# Altium integrated library Motorola Microcontroller 32-Bit.IntLib: 337 symbols (part 9 of 29)
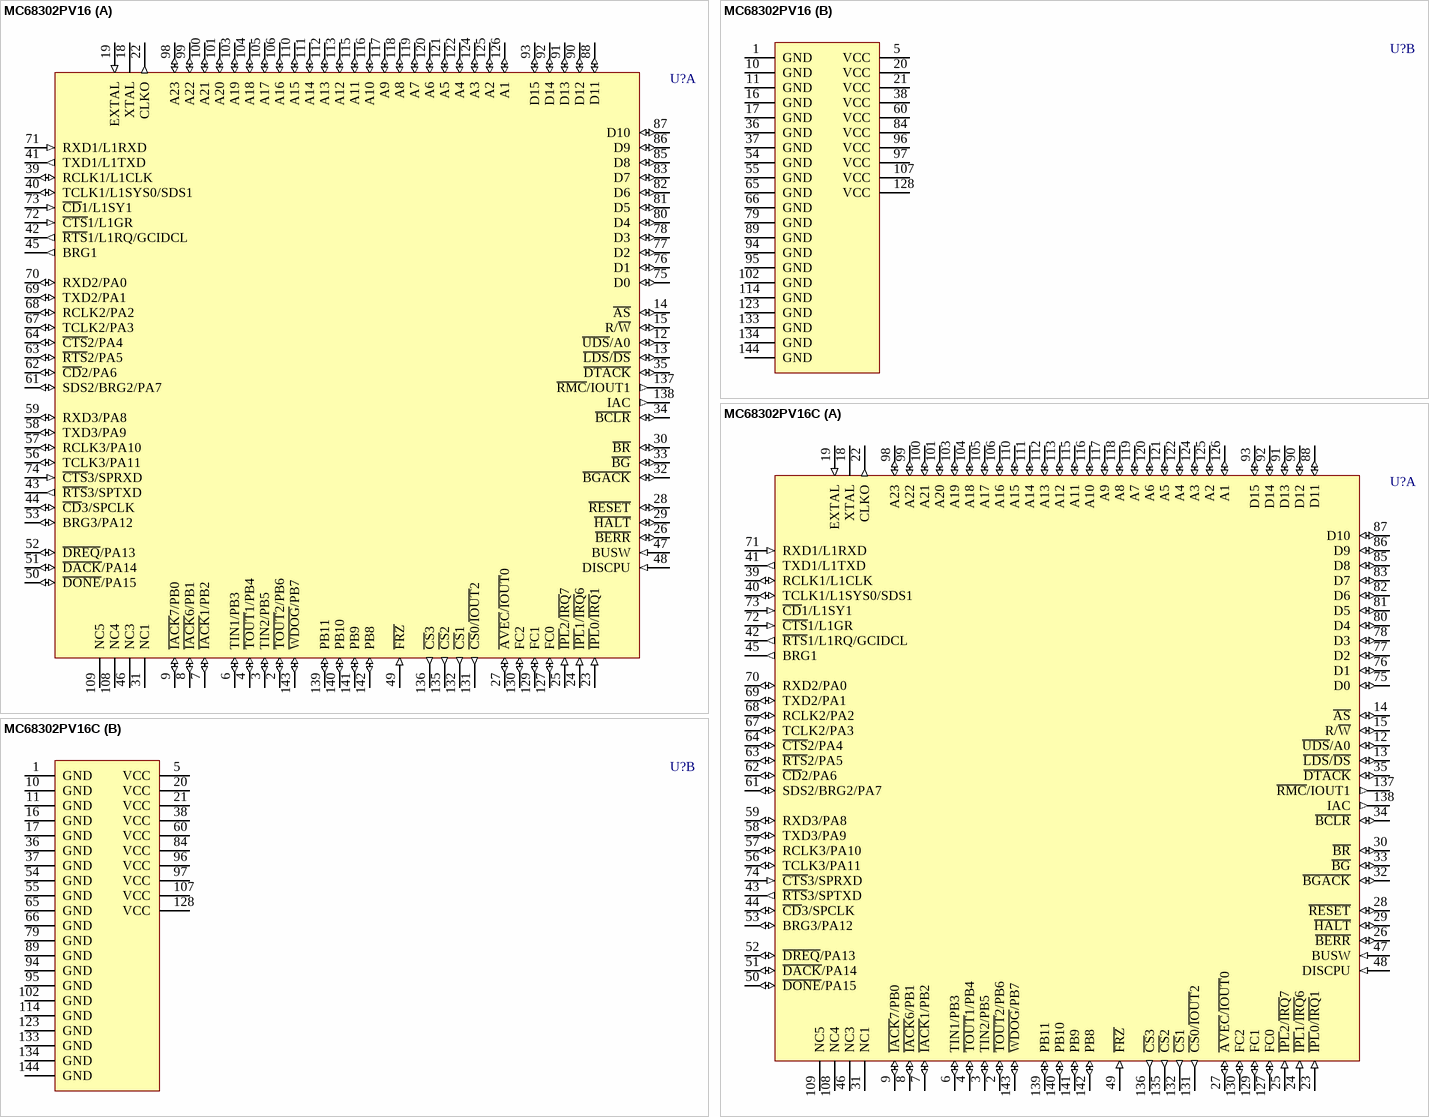
[diagram p248: symbols MC68302PV16 to MC68302PV16C]

## MC68302PV16
designator U?
Integrated Multiprotocol Processor; Published: 21-Mar-2003; LatestRevisionDate: 13-Apr-2006; LatestRevisionNote: IPC-7351 Footprint Added.; DatasheetVersion: 30-Dec-1995; PackageVersion: 1995; PackageReference: 918-02; Publisher: Altium Limited; PackageDescription: 144-Pin Thin Quad Flat Pack 0.5 mm Pitch; ComponentLink1Description: Manufacturer Link; ComponentLink1URL: http://www.freescale.com/; ComponentLink2Description: Datasheet; ComponentLink2URL: http://www.freescale.com/files/32bit/doc/ref_manual/MC68302UM.pdf
footprint 918-02_N (Thin QFP, 144-Leads, Body 20x20mm, Pitch 0.5mm, IPC Medium Density)
footprint 918-02_L (Thin QFP, 144-Leads, Body 20x20mm, Pitch 0.5mm, IPC High Density)
footprint 918-02_M (Thin QFP, 144-Leads, Body 20x20mm, Pitch 0.5mm, IPC Low Density)
3D model MC68302-918 (144-Pin Thin Quad Flat Pack 0.5 mm Pitch)
part A pins: 2 ~{TOUT}2/PB6 (io), 3 TIN2/PB5 (io), 4 ~{TOUT}1/PB4 (io), 6 TIN1/PB3 (io), 7 ~{IACK}1/PB2 (io), 8 ~{IACK}6/PB1 (io), 9 ~{IACK}7/PB0 (io), 12 ~{UDS}/A0 (io), 13 ~{LDS}/~{DS} (io), 14 ~{AS} (io), 15 R/~{W} (io), 18 XTAL, 19 EXTAL (in), 22 CLKO (out), 23 ~{IPL}0/~{IRQ}1 (in), 24 ~{IPL}1/~{IRQ}6 (in), 25 ~{IPL}2/~{IRQ}7 (in), 26 ~{BERR} (io), 27 ~{AVEC}/~{IOUT}0 (io), 28 ~{RESET} (io), 29 ~{HALT} (io), 30 ~{BR} (io), 31 NC1, 32 ~{BGACK} (io), 33 ~{BG} (io), 34 ~{BCLR} (io), 35 ~{DTACK} (io), 39 RCLK1/L1CLK (io), 40 TCLK1/L1SYS0/SDS1 (io), 41 TXD1/L1TXD (out), 42 ~{RTS}1/L1RQ/GCIDCL (out), 43 ~{RTS}3/SPTXD (out), 44 ~{CD}3/SPCLK (io), 45 BRG1 (out), 46 NC3, 47 BUSW (in), 48 DISCPU (in), 49 ~{FRZ} (in), 50 ~{DONE}/PA15 (io), 51 ~{DACK}/PA14 (io), 52 ~{DREQ}/PA13 (io), 53 BRG3/PA12 (io), 56 TCLK3/PA11 (io), 57 RCLK3/PA10 (io), 58 TXD3/PA9 (io), 59 RXD3/PA8 (io), 61 SDS2/BRG2/PA7 (io), 62 ~{CD}2/PA6 (io), 63 ~{RTS}2/PA5 (io), 64 ~{CTS}2/PA4 (io), 67 TCLK2/PA3 (io), 68 RCLK2/PA2 (io), 69 TXD2/PA1 (io), 70 RXD2/PA0 (io), 71 RXD1/L1RXD (in), 72 ~{CTS}1/L1GR (in), 73 ~{CD}1/L1SY1 (in), 74 ~{CTS}3/SPRXD (in), 75 D0 (io), 76 D1 (io), 77 D2 (io), 78 D3 (io), 80 D4 (io), 81 D5 (io), 82 D6 (io), 83 D7 (io), 85 D8 (io), 86 D9 (io), 87 D10 (io), 88 D11 (io), 90 D12 (io), 91 D13 (io), 92 D14 (io), 93 D15 (io), 98 A23 (io), 99 A22 (io), 100 A21 (io), 101 A20 (io), 103 A19 (io), 104 A18 (io), 105 A17 (io), 106 A16 (io), 108 NC4, 109 NC5, 110 A15 (io), 111 A14 (io), 112 A13 (io), 113 A12 (io), 115 A11 (io), 116 A10 (io), 117 A9 (io), 118 A8 (io), 119 A7 (io), 120 A6 (io), 121 A5 (io), 122 A4 (io), 124 A3 (io), 125 A2 (io), 126 A1 (io), 127 FC0 (io), 129 FC1 (io), 130 FC2 (io), 131 ~{CS}0/~{IOUT}2 (out), 132 ~{CS}1 (out), 135 ~{CS}2 (out), 136 ~{CS}3 (out), 137 ~{RMC}/IOUT1 (out), 138 IAC (out), 139 PB11 (io), 140 PB10 (io), 141 PB9 (io), 142 PB8 (io), 143 ~{WDOG}/PB7 (io)
part B pins: 1 GND (power), 5 VCC (power), 10 GND (power), 11 GND (power), 16 GND (power), 17 GND (power), 20 VCC (power), 21 VCC (power), 36 GND (power), 37 GND (power), 38 VCC (power), 54 GND (power), 55 GND (power), 60 VCC (power), 65 GND (power), 66 GND (power), 79 GND (power), 84 VCC (power), 89 GND (power), 94 GND (power), 95 GND (power), 96 VCC (power), 97 VCC (power), 102 GND (power), 107 VCC (power), 114 GND (power), 123 GND (power), 128 VCC (power), 133 GND (power), 134 GND (power), 144 GND (power)

## MC68302PV16C
designator U?
Integrated Multiprotocol Processor; Published: 21-Mar-2003; LatestRevisionDate: 13-Apr-2006; LatestRevisionNote: IPC-7351 Footprint Added.; DatasheetVersion: 30-Dec-1995; PackageVersion: 1995; PackageReference: 918-02; Publisher: Altium Limited; PackageDescription: 144-Pin Thin Quad Flat Pack 0.5 mm Pitch; ComponentLink1Description: Manufacturer Link; ComponentLink1URL: http://www.freescale.com/
footprint 918-02_N (Thin QFP, 144-Leads, Body 20x20mm, Pitch 0.5mm, IPC Medium Density)
footprint 918-02_L (Thin QFP, 144-Leads, Body 20x20mm, Pitch 0.5mm, IPC High Density)
footprint 918-02_M (Thin QFP, 144-Leads, Body 20x20mm, Pitch 0.5mm, IPC Low Density)
3D model MC68302-918 (144-Pin Thin Quad Flat Pack 0.5 mm Pitch)
part A pins: 2 ~{TOUT}2/PB6 (io), 3 TIN2/PB5 (io), 4 ~{TOUT}1/PB4 (io), 6 TIN1/PB3 (io), 7 ~{IACK}1/PB2 (io), 8 ~{IACK}6/PB1 (io), 9 ~{IACK}7/PB0 (io), 12 ~{UDS}/A0 (io), 13 ~{LDS}/~{DS} (io), 14 ~{AS} (io), 15 R/~{W} (io), 18 XTAL, 19 EXTAL (in), 22 CLKO (out), 23 ~{IPL}0/~{IRQ}1 (in), 24 ~{IPL}1/~{IRQ}6 (in), 25 ~{IPL}2/~{IRQ}7 (in), 26 ~{BERR} (io), 27 ~{AVEC}/~{IOUT}0 (io), 28 ~{RESET} (io), 29 ~{HALT} (io), 30 ~{BR} (io), 31 NC1, 32 ~{BGACK} (io), 33 ~{BG} (io), 34 ~{BCLR} (io), 35 ~{DTACK} (io), 39 RCLK1/L1CLK (io), 40 TCLK1/L1SYS0/SDS1 (io), 41 TXD1/L1TXD (out), 42 ~{RTS}1/L1RQ/GCIDCL (out), 43 ~{RTS}3/SPTXD (out), 44 ~{CD}3/SPCLK (io), 45 BRG1 (out), 46 NC3, 47 BUSW (in), 48 DISCPU (in), 49 ~{FRZ} (in), 50 ~{DONE}/PA15 (io), 51 ~{DACK}/PA14 (io), 52 ~{DREQ}/PA13 (io), 53 BRG3/PA12 (io), 56 TCLK3/PA11 (io), 57 RCLK3/PA10 (io), 58 TXD3/PA9 (io), 59 RXD3/PA8 (io), 61 SDS2/BRG2/PA7 (io), 62 ~{CD}2/PA6 (io), 63 ~{RTS}2/PA5 (io), 64 ~{CTS}2/PA4 (io), 67 TCLK2/PA3 (io), 68 RCLK2/PA2 (io), 69 TXD2/PA1 (io), 70 RXD2/PA0 (io), 71 RXD1/L1RXD (in), 72 ~{CTS}1/L1GR (in), 73 ~{CD}1/L1SY1 (in), 74 ~{CTS}3/SPRXD (in), 75 D0 (io), 76 D1 (io), 77 D2 (io), 78 D3 (io), 80 D4 (io), 81 D5 (io), 82 D6 (io), 83 D7 (io), 85 D8 (io), 86 D9 (io), 87 D10 (io), 88 D11 (io), 90 D12 (io), 91 D13 (io), 92 D14 (io), 93 D15 (io), 98 A23 (io), 99 A22 (io), 100 A21 (io), 101 A20 (io), 103 A19 (io), 104 A18 (io), 105 A17 (io), 106 A16 (io), 108 NC4, 109 NC5, 110 A15 (io), 111 A14 (io), 112 A13 (io), 113 A12 (io), 115 A11 (io), 116 A10 (io), 117 A9 (io), 118 A8 (io), 119 A7 (io), 120 A6 (io), 121 A5 (io), 122 A4 (io), 124 A3 (io), 125 A2 (io), 126 A1 (io), 127 FC0 (io), 129 FC1 (io), 130 FC2 (io), 131 ~{CS}0/~{IOUT}2 (out), 132 ~{CS}1 (out), 135 ~{CS}2 (out), 136 ~{CS}3 (out), 137 ~{RMC}/IOUT1 (out), 138 IAC (out), 139 PB11 (io), 140 PB10 (io), 141 PB9 (io), 142 PB8 (io), 143 ~{WDOG}/PB7 (io)
part B pins: 1 GND (power), 5 VCC (power), 10 GND (power), 11 GND (power), 16 GND (power), 17 GND (power), 20 VCC (power), 21 VCC (power), 36 GND (power), 37 GND (power), 38 VCC (power), 54 GND (power), 55 GND (power), 60 VCC (power), 65 GND (power), 66 GND (power), 79 GND (power), 84 VCC (power), 89 GND (power), 94 GND (power), 95 GND (power), 96 VCC (power), 97 VCC (power), 102 GND (power), 107 VCC (power), 114 GND (power), 123 GND (power), 128 VCC (power), 133 GND (power), 134 GND (power), 144 GND (power)

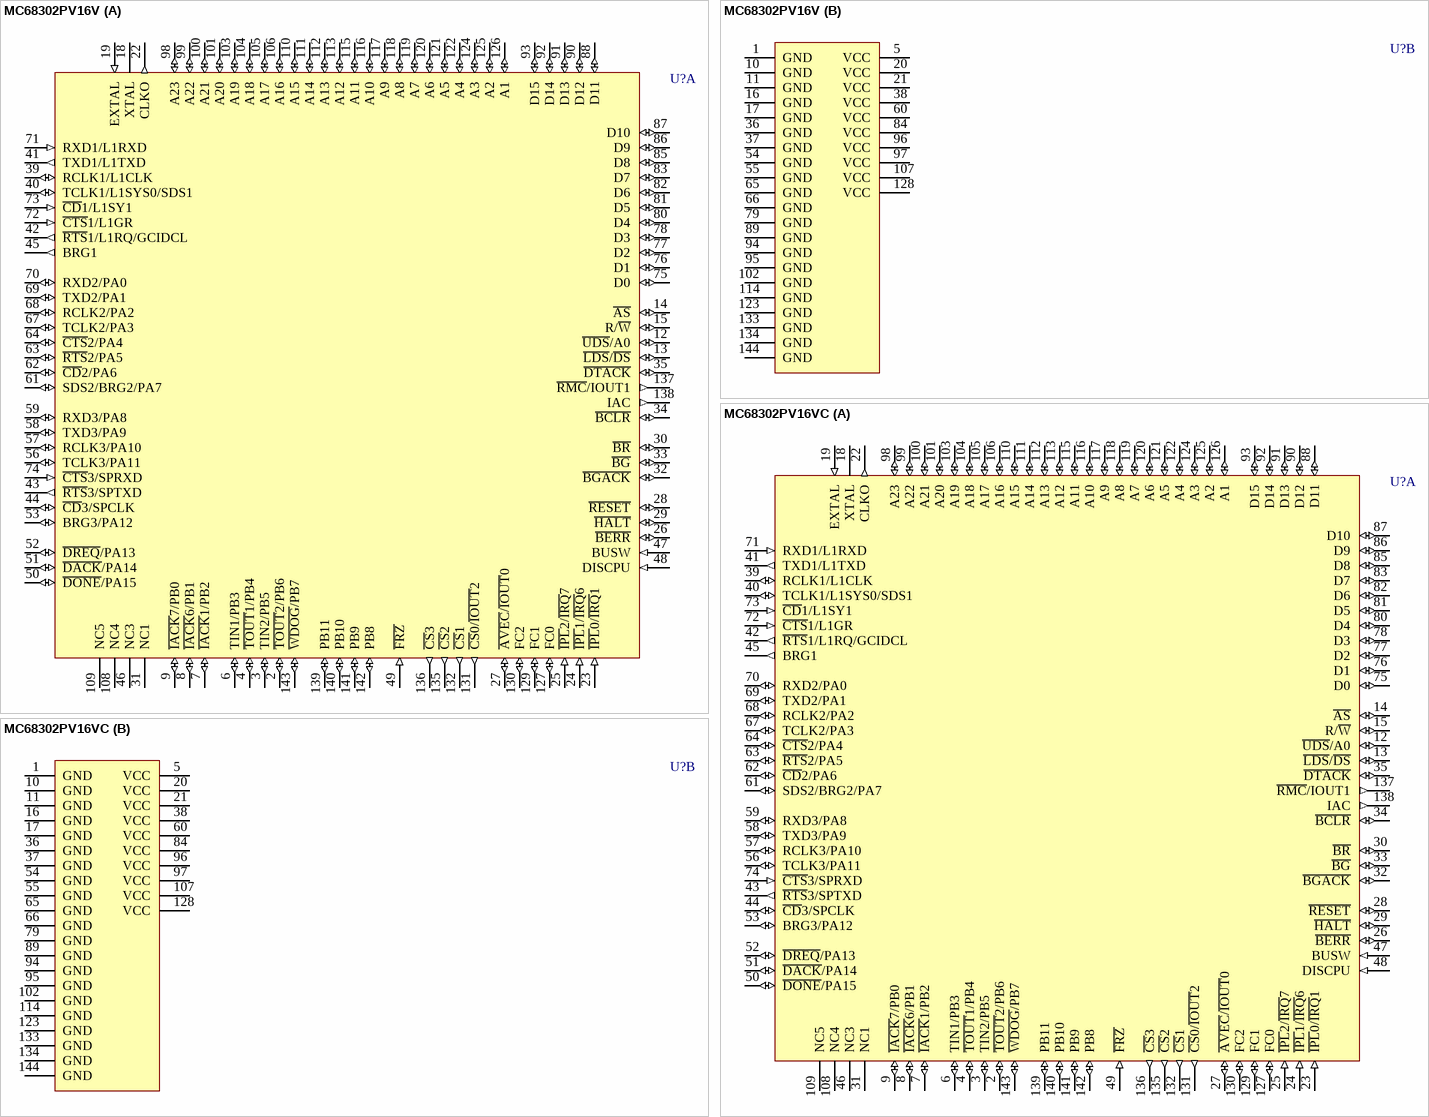
[diagram p79: symbols MC68302PV16V to MC68302PV16VC]

## MC68302PV16V
designator U?
Integrated Multiprotocol Processor; Published: 21-Mar-2003; LatestRevisionDate: 13-Apr-2006; LatestRevisionNote: IPC-7351 Footprint Added.; DatasheetVersion: 30-Dec-1995; PackageVersion: 1995; PackageReference: 918-02; Publisher: Altium Limited; PackageDescription: 144-Pin Thin Quad Flat Pack 0.5 mm Pitch; ComponentLink1Description: Manufacturer Link; ComponentLink1URL: http://www.freescale.com/; ComponentLink2Description: Datasheet; ComponentLink2URL: http://www.freescale.com/files/32bit/doc/ref_manual/MC68302UM.pdf
footprint 918-02_N (Thin QFP, 144-Leads, Body 20x20mm, Pitch 0.5mm, IPC Medium Density)
footprint 918-02_L (Thin QFP, 144-Leads, Body 20x20mm, Pitch 0.5mm, IPC High Density)
footprint 918-02_M (Thin QFP, 144-Leads, Body 20x20mm, Pitch 0.5mm, IPC Low Density)
3D model MC68302-918 (144-Pin Thin Quad Flat Pack 0.5 mm Pitch)
part A pins: 2 ~{TOUT}2/PB6 (io), 3 TIN2/PB5 (io), 4 ~{TOUT}1/PB4 (io), 6 TIN1/PB3 (io), 7 ~{IACK}1/PB2 (io), 8 ~{IACK}6/PB1 (io), 9 ~{IACK}7/PB0 (io), 12 ~{UDS}/A0 (io), 13 ~{LDS}/~{DS} (io), 14 ~{AS} (io), 15 R/~{W} (io), 18 XTAL, 19 EXTAL (in), 22 CLKO (out), 23 ~{IPL}0/~{IRQ}1 (in), 24 ~{IPL}1/~{IRQ}6 (in), 25 ~{IPL}2/~{IRQ}7 (in), 26 ~{BERR} (io), 27 ~{AVEC}/~{IOUT}0 (io), 28 ~{RESET} (io), 29 ~{HALT} (io), 30 ~{BR} (io), 31 NC1, 32 ~{BGACK} (io), 33 ~{BG} (io), 34 ~{BCLR} (io), 35 ~{DTACK} (io), 39 RCLK1/L1CLK (io), 40 TCLK1/L1SYS0/SDS1 (io), 41 TXD1/L1TXD (out), 42 ~{RTS}1/L1RQ/GCIDCL (out), 43 ~{RTS}3/SPTXD (out), 44 ~{CD}3/SPCLK (io), 45 BRG1 (out), 46 NC3, 47 BUSW (in), 48 DISCPU (in), 49 ~{FRZ} (in), 50 ~{DONE}/PA15 (io), 51 ~{DACK}/PA14 (io), 52 ~{DREQ}/PA13 (io), 53 BRG3/PA12 (io), 56 TCLK3/PA11 (io), 57 RCLK3/PA10 (io), 58 TXD3/PA9 (io), 59 RXD3/PA8 (io), 61 SDS2/BRG2/PA7 (io), 62 ~{CD}2/PA6 (io), 63 ~{RTS}2/PA5 (io), 64 ~{CTS}2/PA4 (io), 67 TCLK2/PA3 (io), 68 RCLK2/PA2 (io), 69 TXD2/PA1 (io), 70 RXD2/PA0 (io), 71 RXD1/L1RXD (in), 72 ~{CTS}1/L1GR (in), 73 ~{CD}1/L1SY1 (in), 74 ~{CTS}3/SPRXD (in), 75 D0 (io), 76 D1 (io), 77 D2 (io), 78 D3 (io), 80 D4 (io), 81 D5 (io), 82 D6 (io), 83 D7 (io), 85 D8 (io), 86 D9 (io), 87 D10 (io), 88 D11 (io), 90 D12 (io), 91 D13 (io), 92 D14 (io), 93 D15 (io), 98 A23 (io), 99 A22 (io), 100 A21 (io), 101 A20 (io), 103 A19 (io), 104 A18 (io), 105 A17 (io), 106 A16 (io), 108 NC4, 109 NC5, 110 A15 (io), 111 A14 (io), 112 A13 (io), 113 A12 (io), 115 A11 (io), 116 A10 (io), 117 A9 (io), 118 A8 (io), 119 A7 (io), 120 A6 (io), 121 A5 (io), 122 A4 (io), 124 A3 (io), 125 A2 (io), 126 A1 (io), 127 FC0 (io), 129 FC1 (io), 130 FC2 (io), 131 ~{CS}0/~{IOUT}2 (out), 132 ~{CS}1 (out), 135 ~{CS}2 (out), 136 ~{CS}3 (out), 137 ~{RMC}/IOUT1 (out), 138 IAC (out), 139 PB11 (io), 140 PB10 (io), 141 PB9 (io), 142 PB8 (io), 143 ~{WDOG}/PB7 (io)
part B pins: 1 GND (power), 5 VCC (power), 10 GND (power), 11 GND (power), 16 GND (power), 17 GND (power), 20 VCC (power), 21 VCC (power), 36 GND (power), 37 GND (power), 38 VCC (power), 54 GND (power), 55 GND (power), 60 VCC (power), 65 GND (power), 66 GND (power), 79 GND (power), 84 VCC (power), 89 GND (power), 94 GND (power), 95 GND (power), 96 VCC (power), 97 VCC (power), 102 GND (power), 107 VCC (power), 114 GND (power), 123 GND (power), 128 VCC (power), 133 GND (power), 134 GND (power), 144 GND (power)

## MC68302PV16VC
designator U?
Integrated Multiprotocol Processor; Published: 21-Mar-2003; LatestRevisionDate: 13-Apr-2006; LatestRevisionNote: IPC-7351 Footprint Added.; DatasheetVersion: 30-Dec-1995; PackageVersion: 1995; PackageReference: 918-02; Publisher: Altium Limited; PackageDescription: 144-Pin Thin Quad Flat Pack 0.5 mm Pitch; ComponentLink1Description: Manufacturer Link; ComponentLink1URL: http://www.freescale.com/
footprint 918-02_N (Thin QFP, 144-Leads, Body 20x20mm, Pitch 0.5mm, IPC Medium Density)
footprint 918-02_L (Thin QFP, 144-Leads, Body 20x20mm, Pitch 0.5mm, IPC High Density)
footprint 918-02_M (Thin QFP, 144-Leads, Body 20x20mm, Pitch 0.5mm, IPC Low Density)
3D model MC68302-918 (144-Pin Thin Quad Flat Pack 0.5 mm Pitch)
part A pins: 2 ~{TOUT}2/PB6 (io), 3 TIN2/PB5 (io), 4 ~{TOUT}1/PB4 (io), 6 TIN1/PB3 (io), 7 ~{IACK}1/PB2 (io), 8 ~{IACK}6/PB1 (io), 9 ~{IACK}7/PB0 (io), 12 ~{UDS}/A0 (io), 13 ~{LDS}/~{DS} (io), 14 ~{AS} (io), 15 R/~{W} (io), 18 XTAL, 19 EXTAL (in), 22 CLKO (out), 23 ~{IPL}0/~{IRQ}1 (in), 24 ~{IPL}1/~{IRQ}6 (in), 25 ~{IPL}2/~{IRQ}7 (in), 26 ~{BERR} (io), 27 ~{AVEC}/~{IOUT}0 (io), 28 ~{RESET} (io), 29 ~{HALT} (io), 30 ~{BR} (io), 31 NC1, 32 ~{BGACK} (io), 33 ~{BG} (io), 34 ~{BCLR} (io), 35 ~{DTACK} (io), 39 RCLK1/L1CLK (io), 40 TCLK1/L1SYS0/SDS1 (io), 41 TXD1/L1TXD (out), 42 ~{RTS}1/L1RQ/GCIDCL (out), 43 ~{RTS}3/SPTXD (out), 44 ~{CD}3/SPCLK (io), 45 BRG1 (out), 46 NC3, 47 BUSW (in), 48 DISCPU (in), 49 ~{FRZ} (in), 50 ~{DONE}/PA15 (io), 51 ~{DACK}/PA14 (io), 52 ~{DREQ}/PA13 (io), 53 BRG3/PA12 (io), 56 TCLK3/PA11 (io), 57 RCLK3/PA10 (io), 58 TXD3/PA9 (io), 59 RXD3/PA8 (io), 61 SDS2/BRG2/PA7 (io), 62 ~{CD}2/PA6 (io), 63 ~{RTS}2/PA5 (io), 64 ~{CTS}2/PA4 (io), 67 TCLK2/PA3 (io), 68 RCLK2/PA2 (io), 69 TXD2/PA1 (io), 70 RXD2/PA0 (io), 71 RXD1/L1RXD (in), 72 ~{CTS}1/L1GR (in), 73 ~{CD}1/L1SY1 (in), 74 ~{CTS}3/SPRXD (in), 75 D0 (io), 76 D1 (io), 77 D2 (io), 78 D3 (io), 80 D4 (io), 81 D5 (io), 82 D6 (io), 83 D7 (io), 85 D8 (io), 86 D9 (io), 87 D10 (io), 88 D11 (io), 90 D12 (io), 91 D13 (io), 92 D14 (io), 93 D15 (io), 98 A23 (io), 99 A22 (io), 100 A21 (io), 101 A20 (io), 103 A19 (io), 104 A18 (io), 105 A17 (io), 106 A16 (io), 108 NC4, 109 NC5, 110 A15 (io), 111 A14 (io), 112 A13 (io), 113 A12 (io), 115 A11 (io), 116 A10 (io), 117 A9 (io), 118 A8 (io), 119 A7 (io), 120 A6 (io), 121 A5 (io), 122 A4 (io), 124 A3 (io), 125 A2 (io), 126 A1 (io), 127 FC0 (io), 129 FC1 (io), 130 FC2 (io), 131 ~{CS}0/~{IOUT}2 (out), 132 ~{CS}1 (out), 135 ~{CS}2 (out), 136 ~{CS}3 (out), 137 ~{RMC}/IOUT1 (out), 138 IAC (out), 139 PB11 (io), 140 PB10 (io), 141 PB9 (io), 142 PB8 (io), 143 ~{WDOG}/PB7 (io)
part B pins: 1 GND (power), 5 VCC (power), 10 GND (power), 11 GND (power), 16 GND (power), 17 GND (power), 20 VCC (power), 21 VCC (power), 36 GND (power), 37 GND (power), 38 VCC (power), 54 GND (power), 55 GND (power), 60 VCC (power), 65 GND (power), 66 GND (power), 79 GND (power), 84 VCC (power), 89 GND (power), 94 GND (power), 95 GND (power), 96 VCC (power), 97 VCC (power), 102 GND (power), 107 VCC (power), 114 GND (power), 123 GND (power), 128 VCC (power), 133 GND (power), 134 GND (power), 144 GND (power)

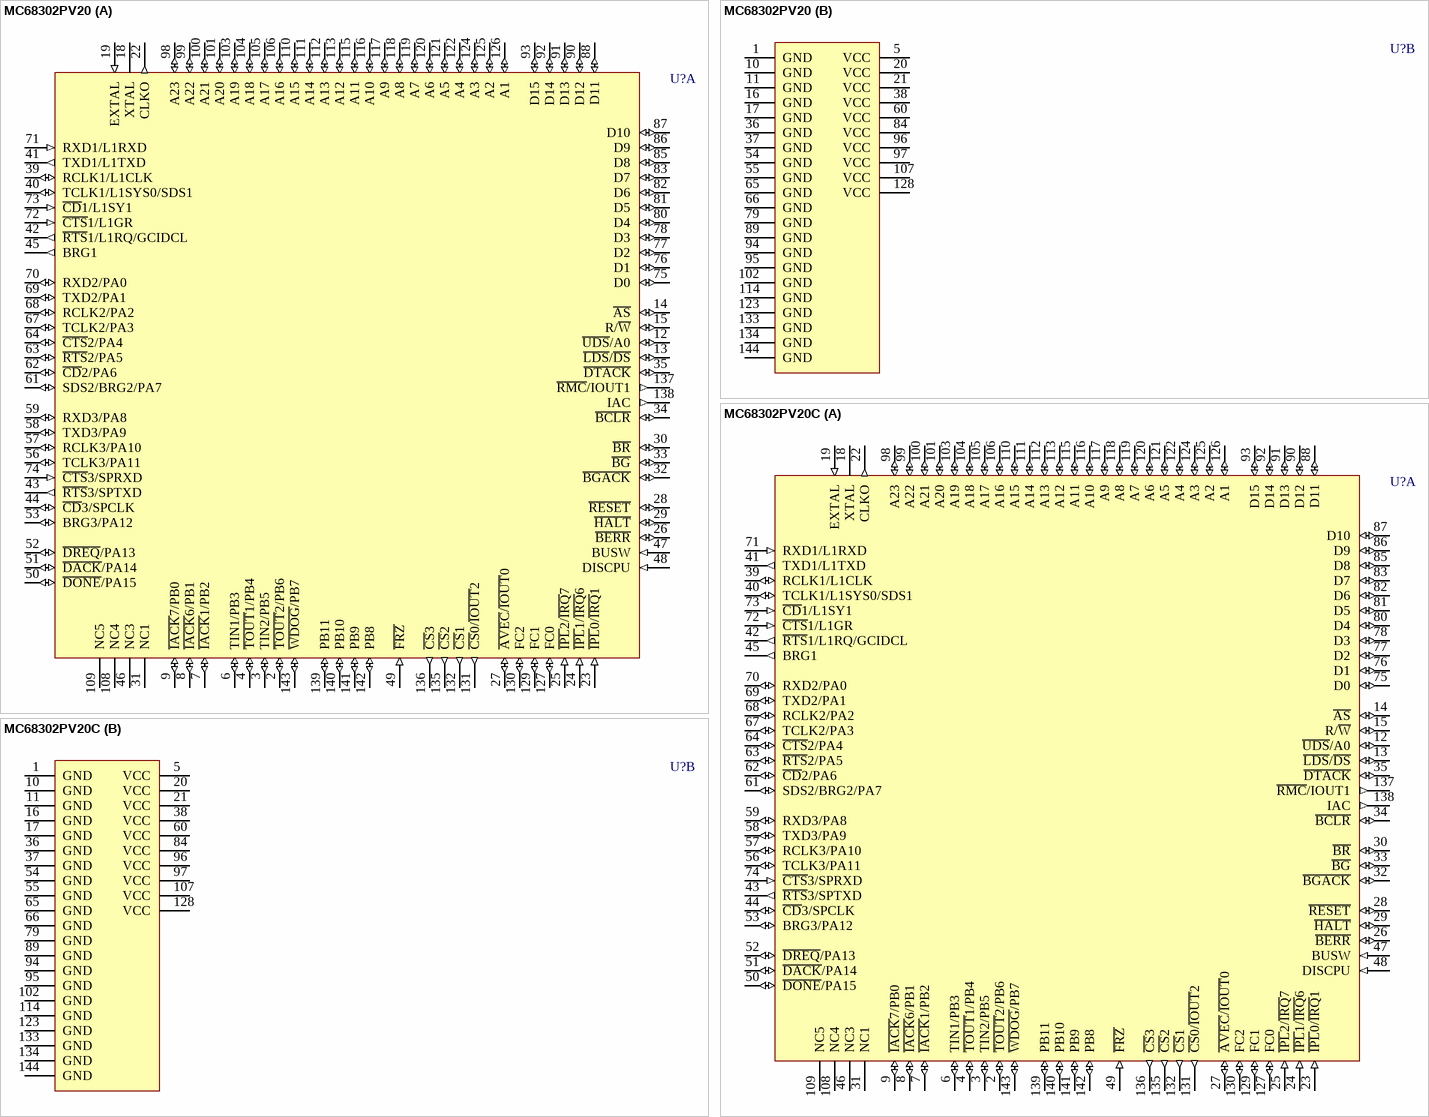
[diagram p80: symbols MC68302PV20 to MC68302PV20C]

## MC68302PV20
designator U?
Integrated Multiprotocol Processor; Published: 21-Mar-2003; LatestRevisionDate: 13-Apr-2006; LatestRevisionNote: IPC-7351 Footprint Added.; DatasheetVersion: 30-Dec-1995; PackageVersion: 1995; PackageReference: 918-02; Publisher: Altium Limited; PackageDescription: 144-Pin Thin Quad Flat Pack 0.5 mm Pitch; ComponentLink1Description: Manufacturer Link; ComponentLink1URL: http://www.freescale.com/; ComponentLink2Description: Datasheet; ComponentLink2URL: http://www.freescale.com/files/32bit/doc/ref_manual/MC68302UM.pdf
footprint 918-02_N (Thin QFP, 144-Leads, Body 20x20mm, Pitch 0.5mm, IPC Medium Density)
footprint 918-02_L (Thin QFP, 144-Leads, Body 20x20mm, Pitch 0.5mm, IPC High Density)
footprint 918-02_M (Thin QFP, 144-Leads, Body 20x20mm, Pitch 0.5mm, IPC Low Density)
3D model MC68302-918 (144-Pin Thin Quad Flat Pack 0.5 mm Pitch)
part A pins: 2 ~{TOUT}2/PB6 (io), 3 TIN2/PB5 (io), 4 ~{TOUT}1/PB4 (io), 6 TIN1/PB3 (io), 7 ~{IACK}1/PB2 (io), 8 ~{IACK}6/PB1 (io), 9 ~{IACK}7/PB0 (io), 12 ~{UDS}/A0 (io), 13 ~{LDS}/~{DS} (io), 14 ~{AS} (io), 15 R/~{W} (io), 18 XTAL, 19 EXTAL (in), 22 CLKO (out), 23 ~{IPL}0/~{IRQ}1 (in), 24 ~{IPL}1/~{IRQ}6 (in), 25 ~{IPL}2/~{IRQ}7 (in), 26 ~{BERR} (io), 27 ~{AVEC}/~{IOUT}0 (io), 28 ~{RESET} (io), 29 ~{HALT} (io), 30 ~{BR} (io), 31 NC1, 32 ~{BGACK} (io), 33 ~{BG} (io), 34 ~{BCLR} (io), 35 ~{DTACK} (io), 39 RCLK1/L1CLK (io), 40 TCLK1/L1SYS0/SDS1 (io), 41 TXD1/L1TXD (out), 42 ~{RTS}1/L1RQ/GCIDCL (out), 43 ~{RTS}3/SPTXD (out), 44 ~{CD}3/SPCLK (io), 45 BRG1 (out), 46 NC3, 47 BUSW (in), 48 DISCPU (in), 49 ~{FRZ} (in), 50 ~{DONE}/PA15 (io), 51 ~{DACK}/PA14 (io), 52 ~{DREQ}/PA13 (io), 53 BRG3/PA12 (io), 56 TCLK3/PA11 (io), 57 RCLK3/PA10 (io), 58 TXD3/PA9 (io), 59 RXD3/PA8 (io), 61 SDS2/BRG2/PA7 (io), 62 ~{CD}2/PA6 (io), 63 ~{RTS}2/PA5 (io), 64 ~{CTS}2/PA4 (io), 67 TCLK2/PA3 (io), 68 RCLK2/PA2 (io), 69 TXD2/PA1 (io), 70 RXD2/PA0 (io), 71 RXD1/L1RXD (in), 72 ~{CTS}1/L1GR (in), 73 ~{CD}1/L1SY1 (in), 74 ~{CTS}3/SPRXD (in), 75 D0 (io), 76 D1 (io), 77 D2 (io), 78 D3 (io), 80 D4 (io), 81 D5 (io), 82 D6 (io), 83 D7 (io), 85 D8 (io), 86 D9 (io), 87 D10 (io), 88 D11 (io), 90 D12 (io), 91 D13 (io), 92 D14 (io), 93 D15 (io), 98 A23 (io), 99 A22 (io), 100 A21 (io), 101 A20 (io), 103 A19 (io), 104 A18 (io), 105 A17 (io), 106 A16 (io), 108 NC4, 109 NC5, 110 A15 (io), 111 A14 (io), 112 A13 (io), 113 A12 (io), 115 A11 (io), 116 A10 (io), 117 A9 (io), 118 A8 (io), 119 A7 (io), 120 A6 (io), 121 A5 (io), 122 A4 (io), 124 A3 (io), 125 A2 (io), 126 A1 (io), 127 FC0 (io), 129 FC1 (io), 130 FC2 (io), 131 ~{CS}0/~{IOUT}2 (out), 132 ~{CS}1 (out), 135 ~{CS}2 (out), 136 ~{CS}3 (out), 137 ~{RMC}/IOUT1 (out), 138 IAC (out), 139 PB11 (io), 140 PB10 (io), 141 PB9 (io), 142 PB8 (io), 143 ~{WDOG}/PB7 (io)
part B pins: 1 GND (power), 5 VCC (power), 10 GND (power), 11 GND (power), 16 GND (power), 17 GND (power), 20 VCC (power), 21 VCC (power), 36 GND (power), 37 GND (power), 38 VCC (power), 54 GND (power), 55 GND (power), 60 VCC (power), 65 GND (power), 66 GND (power), 79 GND (power), 84 VCC (power), 89 GND (power), 94 GND (power), 95 GND (power), 96 VCC (power), 97 VCC (power), 102 GND (power), 107 VCC (power), 114 GND (power), 123 GND (power), 128 VCC (power), 133 GND (power), 134 GND (power), 144 GND (power)

## MC68302PV20C
designator U?
Integrated Multiprotocol Processor; Published: 21-Mar-2003; LatestRevisionDate: 13-Apr-2006; LatestRevisionNote: IPC-7351 Footprint Added.; DatasheetVersion: 30-Dec-1995; PackageVersion: 1995; PackageReference: 918-02; Publisher: Altium Limited; PackageDescription: 144-Pin Thin Quad Flat Pack 0.5 mm Pitch; ComponentLink1Description: Manufacturer Link; ComponentLink1URL: http://www.freescale.com/
footprint 918-02_N (Thin QFP, 144-Leads, Body 20x20mm, Pitch 0.5mm, IPC Medium Density)
footprint 918-02_L (Thin QFP, 144-Leads, Body 20x20mm, Pitch 0.5mm, IPC High Density)
footprint 918-02_M (Thin QFP, 144-Leads, Body 20x20mm, Pitch 0.5mm, IPC Low Density)
3D model MC68302-918 (144-Pin Thin Quad Flat Pack 0.5 mm Pitch)
part A pins: 2 ~{TOUT}2/PB6 (io), 3 TIN2/PB5 (io), 4 ~{TOUT}1/PB4 (io), 6 TIN1/PB3 (io), 7 ~{IACK}1/PB2 (io), 8 ~{IACK}6/PB1 (io), 9 ~{IACK}7/PB0 (io), 12 ~{UDS}/A0 (io), 13 ~{LDS}/~{DS} (io), 14 ~{AS} (io), 15 R/~{W} (io), 18 XTAL, 19 EXTAL (in), 22 CLKO (out), 23 ~{IPL}0/~{IRQ}1 (in), 24 ~{IPL}1/~{IRQ}6 (in), 25 ~{IPL}2/~{IRQ}7 (in), 26 ~{BERR} (io), 27 ~{AVEC}/~{IOUT}0 (io), 28 ~{RESET} (io), 29 ~{HALT} (io), 30 ~{BR} (io), 31 NC1, 32 ~{BGACK} (io), 33 ~{BG} (io), 34 ~{BCLR} (io), 35 ~{DTACK} (io), 39 RCLK1/L1CLK (io), 40 TCLK1/L1SYS0/SDS1 (io), 41 TXD1/L1TXD (out), 42 ~{RTS}1/L1RQ/GCIDCL (out), 43 ~{RTS}3/SPTXD (out), 44 ~{CD}3/SPCLK (io), 45 BRG1 (out), 46 NC3, 47 BUSW (in), 48 DISCPU (in), 49 ~{FRZ} (in), 50 ~{DONE}/PA15 (io), 51 ~{DACK}/PA14 (io), 52 ~{DREQ}/PA13 (io), 53 BRG3/PA12 (io), 56 TCLK3/PA11 (io), 57 RCLK3/PA10 (io), 58 TXD3/PA9 (io), 59 RXD3/PA8 (io), 61 SDS2/BRG2/PA7 (io), 62 ~{CD}2/PA6 (io), 63 ~{RTS}2/PA5 (io), 64 ~{CTS}2/PA4 (io), 67 TCLK2/PA3 (io), 68 RCLK2/PA2 (io), 69 TXD2/PA1 (io), 70 RXD2/PA0 (io), 71 RXD1/L1RXD (in), 72 ~{CTS}1/L1GR (in), 73 ~{CD}1/L1SY1 (in), 74 ~{CTS}3/SPRXD (in), 75 D0 (io), 76 D1 (io), 77 D2 (io), 78 D3 (io), 80 D4 (io), 81 D5 (io), 82 D6 (io), 83 D7 (io), 85 D8 (io), 86 D9 (io), 87 D10 (io), 88 D11 (io), 90 D12 (io), 91 D13 (io), 92 D14 (io), 93 D15 (io), 98 A23 (io), 99 A22 (io), 100 A21 (io), 101 A20 (io), 103 A19 (io), 104 A18 (io), 105 A17 (io), 106 A16 (io), 108 NC4, 109 NC5, 110 A15 (io), 111 A14 (io), 112 A13 (io), 113 A12 (io), 115 A11 (io), 116 A10 (io), 117 A9 (io), 118 A8 (io), 119 A7 (io), 120 A6 (io), 121 A5 (io), 122 A4 (io), 124 A3 (io), 125 A2 (io), 126 A1 (io), 127 FC0 (io), 129 FC1 (io), 130 FC2 (io), 131 ~{CS}0/~{IOUT}2 (out), 132 ~{CS}1 (out), 135 ~{CS}2 (out), 136 ~{CS}3 (out), 137 ~{RMC}/IOUT1 (out), 138 IAC (out), 139 PB11 (io), 140 PB10 (io), 141 PB9 (io), 142 PB8 (io), 143 ~{WDOG}/PB7 (io)
part B pins: 1 GND (power), 5 VCC (power), 10 GND (power), 11 GND (power), 16 GND (power), 17 GND (power), 20 VCC (power), 21 VCC (power), 36 GND (power), 37 GND (power), 38 VCC (power), 54 GND (power), 55 GND (power), 60 VCC (power), 65 GND (power), 66 GND (power), 79 GND (power), 84 VCC (power), 89 GND (power), 94 GND (power), 95 GND (power), 96 VCC (power), 97 VCC (power), 102 GND (power), 107 VCC (power), 114 GND (power), 123 GND (power), 128 VCC (power), 133 GND (power), 134 GND (power), 144 GND (power)

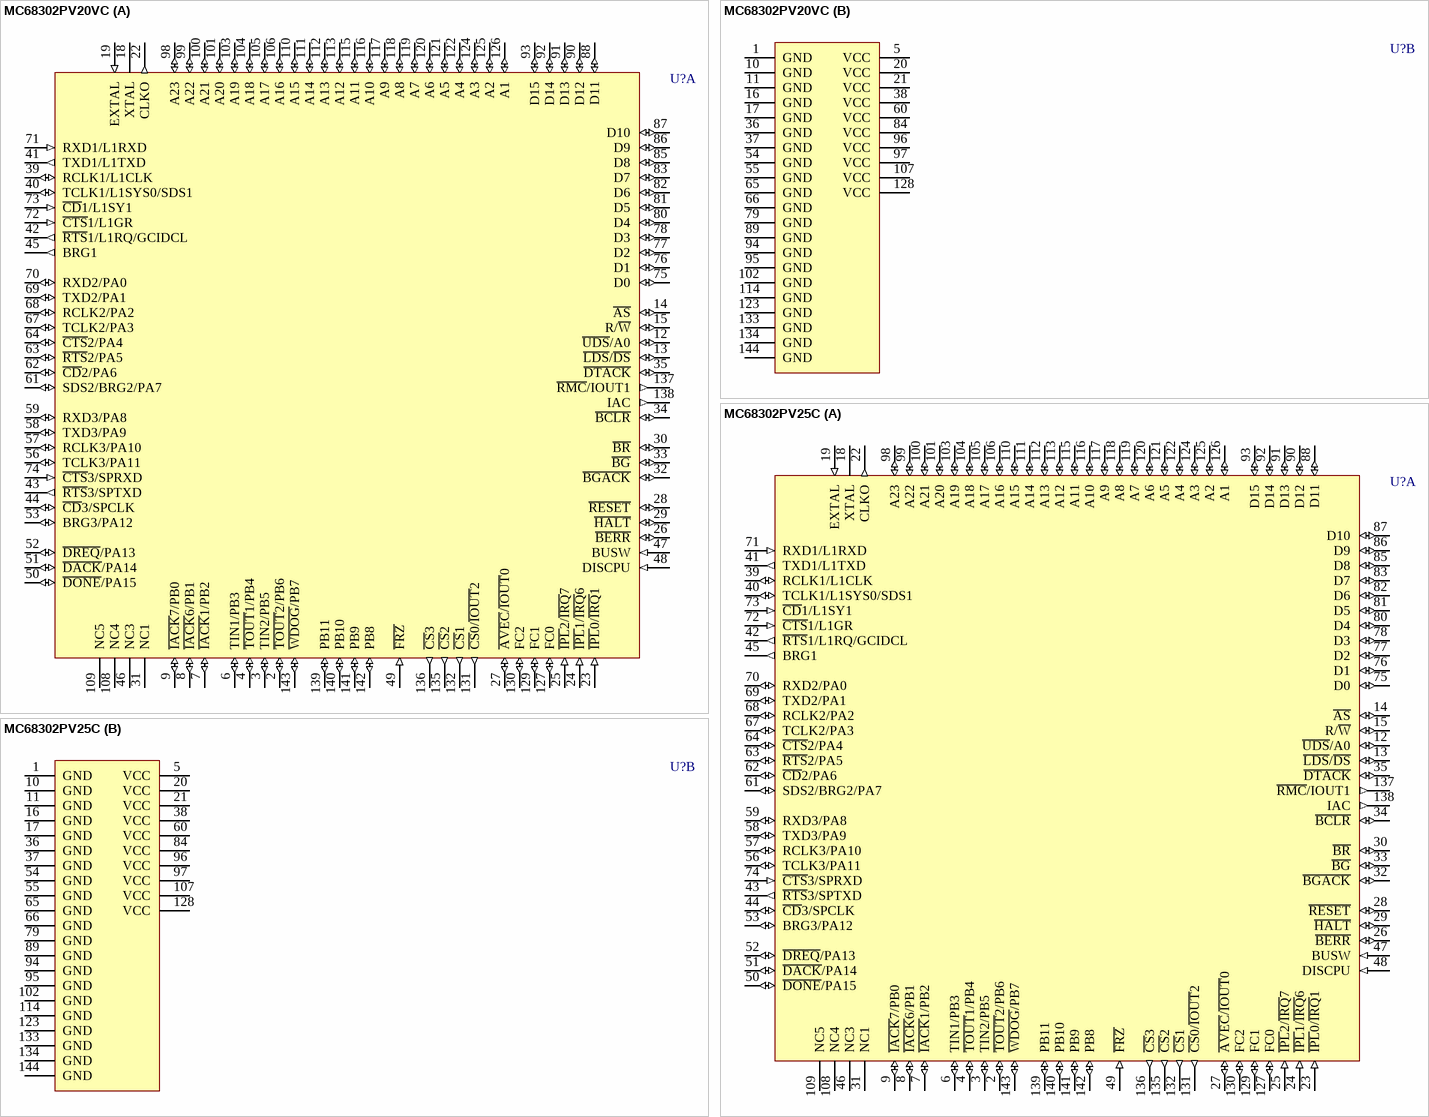
[diagram p81: symbols MC68302PV20VC to MC68302PV25C]

## MC68302PV20VC
designator U?
Integrated Multiprotocol Processor; Published: 21-Mar-2003; LatestRevisionDate: 13-Apr-2006; LatestRevisionNote: IPC-7351 Footprint Added.; DatasheetVersion: 30-Dec-1995; PackageVersion: 1995; PackageReference: 918-02; Publisher: Altium Limited; PackageDescription: 144-Pin Thin Quad Flat Pack 0.5 mm Pitch; ComponentLink1Description: Manufacturer Link; ComponentLink1URL: http://www.freescale.com/
footprint 918-02_N (Thin QFP, 144-Leads, Body 20x20mm, Pitch 0.5mm, IPC Medium Density)
footprint 918-02_L (Thin QFP, 144-Leads, Body 20x20mm, Pitch 0.5mm, IPC High Density)
footprint 918-02_M (Thin QFP, 144-Leads, Body 20x20mm, Pitch 0.5mm, IPC Low Density)
3D model MC68302-918 (144-Pin Thin Quad Flat Pack 0.5 mm Pitch)
part A pins: 2 ~{TOUT}2/PB6 (io), 3 TIN2/PB5 (io), 4 ~{TOUT}1/PB4 (io), 6 TIN1/PB3 (io), 7 ~{IACK}1/PB2 (io), 8 ~{IACK}6/PB1 (io), 9 ~{IACK}7/PB0 (io), 12 ~{UDS}/A0 (io), 13 ~{LDS}/~{DS} (io), 14 ~{AS} (io), 15 R/~{W} (io), 18 XTAL, 19 EXTAL (in), 22 CLKO (out), 23 ~{IPL}0/~{IRQ}1 (in), 24 ~{IPL}1/~{IRQ}6 (in), 25 ~{IPL}2/~{IRQ}7 (in), 26 ~{BERR} (io), 27 ~{AVEC}/~{IOUT}0 (io), 28 ~{RESET} (io), 29 ~{HALT} (io), 30 ~{BR} (io), 31 NC1, 32 ~{BGACK} (io), 33 ~{BG} (io), 34 ~{BCLR} (io), 35 ~{DTACK} (io), 39 RCLK1/L1CLK (io), 40 TCLK1/L1SYS0/SDS1 (io), 41 TXD1/L1TXD (out), 42 ~{RTS}1/L1RQ/GCIDCL (out), 43 ~{RTS}3/SPTXD (out), 44 ~{CD}3/SPCLK (io), 45 BRG1 (out), 46 NC3, 47 BUSW (in), 48 DISCPU (in), 49 ~{FRZ} (in), 50 ~{DONE}/PA15 (io), 51 ~{DACK}/PA14 (io), 52 ~{DREQ}/PA13 (io), 53 BRG3/PA12 (io), 56 TCLK3/PA11 (io), 57 RCLK3/PA10 (io), 58 TXD3/PA9 (io), 59 RXD3/PA8 (io), 61 SDS2/BRG2/PA7 (io), 62 ~{CD}2/PA6 (io), 63 ~{RTS}2/PA5 (io), 64 ~{CTS}2/PA4 (io), 67 TCLK2/PA3 (io), 68 RCLK2/PA2 (io), 69 TXD2/PA1 (io), 70 RXD2/PA0 (io), 71 RXD1/L1RXD (in), 72 ~{CTS}1/L1GR (in), 73 ~{CD}1/L1SY1 (in), 74 ~{CTS}3/SPRXD (in), 75 D0 (io), 76 D1 (io), 77 D2 (io), 78 D3 (io), 80 D4 (io), 81 D5 (io), 82 D6 (io), 83 D7 (io), 85 D8 (io), 86 D9 (io), 87 D10 (io), 88 D11 (io), 90 D12 (io), 91 D13 (io), 92 D14 (io), 93 D15 (io), 98 A23 (io), 99 A22 (io), 100 A21 (io), 101 A20 (io), 103 A19 (io), 104 A18 (io), 105 A17 (io), 106 A16 (io), 108 NC4, 109 NC5, 110 A15 (io), 111 A14 (io), 112 A13 (io), 113 A12 (io), 115 A11 (io), 116 A10 (io), 117 A9 (io), 118 A8 (io), 119 A7 (io), 120 A6 (io), 121 A5 (io), 122 A4 (io), 124 A3 (io), 125 A2 (io), 126 A1 (io), 127 FC0 (io), 129 FC1 (io), 130 FC2 (io), 131 ~{CS}0/~{IOUT}2 (out), 132 ~{CS}1 (out), 135 ~{CS}2 (out), 136 ~{CS}3 (out), 137 ~{RMC}/IOUT1 (out), 138 IAC (out), 139 PB11 (io), 140 PB10 (io), 141 PB9 (io), 142 PB8 (io), 143 ~{WDOG}/PB7 (io)
part B pins: 1 GND (power), 5 VCC (power), 10 GND (power), 11 GND (power), 16 GND (power), 17 GND (power), 20 VCC (power), 21 VCC (power), 36 GND (power), 37 GND (power), 38 VCC (power), 54 GND (power), 55 GND (power), 60 VCC (power), 65 GND (power), 66 GND (power), 79 GND (power), 84 VCC (power), 89 GND (power), 94 GND (power), 95 GND (power), 96 VCC (power), 97 VCC (power), 102 GND (power), 107 VCC (power), 114 GND (power), 123 GND (power), 128 VCC (power), 133 GND (power), 134 GND (power), 144 GND (power)

## MC68302PV25C
designator U?
Integrated Multiprotocol Processor; Published: 21-Mar-2003; LatestRevisionDate: 13-Apr-2006; LatestRevisionNote: IPC-7351 Footprint Added.; DatasheetVersion: 30-Dec-1995; PackageVersion: 1995; PackageReference: 918-02; Publisher: Altium Limited; PackageDescription: 144-Pin Thin Quad Flat Pack 0.5 mm Pitch; ComponentLink1Description: Manufacturer Link; ComponentLink1URL: http://www.freescale.com/
footprint 918-02_N (Thin QFP, 144-Leads, Body 20x20mm, Pitch 0.5mm, IPC Medium Density)
footprint 918-02_L (Thin QFP, 144-Leads, Body 20x20mm, Pitch 0.5mm, IPC High Density)
footprint 918-02_M (Thin QFP, 144-Leads, Body 20x20mm, Pitch 0.5mm, IPC Low Density)
3D model MC68302-918 (144-Pin Thin Quad Flat Pack 0.5 mm Pitch)
part A pins: 2 ~{TOUT}2/PB6 (io), 3 TIN2/PB5 (io), 4 ~{TOUT}1/PB4 (io), 6 TIN1/PB3 (io), 7 ~{IACK}1/PB2 (io), 8 ~{IACK}6/PB1 (io), 9 ~{IACK}7/PB0 (io), 12 ~{UDS}/A0 (io), 13 ~{LDS}/~{DS} (io), 14 ~{AS} (io), 15 R/~{W} (io), 18 XTAL, 19 EXTAL (in), 22 CLKO (out), 23 ~{IPL}0/~{IRQ}1 (in), 24 ~{IPL}1/~{IRQ}6 (in), 25 ~{IPL}2/~{IRQ}7 (in), 26 ~{BERR} (io), 27 ~{AVEC}/~{IOUT}0 (io), 28 ~{RESET} (io), 29 ~{HALT} (io), 30 ~{BR} (io), 31 NC1, 32 ~{BGACK} (io), 33 ~{BG} (io), 34 ~{BCLR} (io), 35 ~{DTACK} (io), 39 RCLK1/L1CLK (io), 40 TCLK1/L1SYS0/SDS1 (io), 41 TXD1/L1TXD (out), 42 ~{RTS}1/L1RQ/GCIDCL (out), 43 ~{RTS}3/SPTXD (out), 44 ~{CD}3/SPCLK (io), 45 BRG1 (out), 46 NC3, 47 BUSW (in), 48 DISCPU (in), 49 ~{FRZ} (in), 50 ~{DONE}/PA15 (io), 51 ~{DACK}/PA14 (io), 52 ~{DREQ}/PA13 (io), 53 BRG3/PA12 (io), 56 TCLK3/PA11 (io), 57 RCLK3/PA10 (io), 58 TXD3/PA9 (io), 59 RXD3/PA8 (io), 61 SDS2/BRG2/PA7 (io), 62 ~{CD}2/PA6 (io), 63 ~{RTS}2/PA5 (io), 64 ~{CTS}2/PA4 (io), 67 TCLK2/PA3 (io), 68 RCLK2/PA2 (io), 69 TXD2/PA1 (io), 70 RXD2/PA0 (io), 71 RXD1/L1RXD (in), 72 ~{CTS}1/L1GR (in), 73 ~{CD}1/L1SY1 (in), 74 ~{CTS}3/SPRXD (in), 75 D0 (io), 76 D1 (io), 77 D2 (io), 78 D3 (io), 80 D4 (io), 81 D5 (io), 82 D6 (io), 83 D7 (io), 85 D8 (io), 86 D9 (io), 87 D10 (io), 88 D11 (io), 90 D12 (io), 91 D13 (io), 92 D14 (io), 93 D15 (io), 98 A23 (io), 99 A22 (io), 100 A21 (io), 101 A20 (io), 103 A19 (io), 104 A18 (io), 105 A17 (io), 106 A16 (io), 108 NC4, 109 NC5, 110 A15 (io), 111 A14 (io), 112 A13 (io), 113 A12 (io), 115 A11 (io), 116 A10 (io), 117 A9 (io), 118 A8 (io), 119 A7 (io), 120 A6 (io), 121 A5 (io), 122 A4 (io), 124 A3 (io), 125 A2 (io), 126 A1 (io), 127 FC0 (io), 129 FC1 (io), 130 FC2 (io), 131 ~{CS}0/~{IOUT}2 (out), 132 ~{CS}1 (out), 135 ~{CS}2 (out), 136 ~{CS}3 (out), 137 ~{RMC}/IOUT1 (out), 138 IAC (out), 139 PB11 (io), 140 PB10 (io), 141 PB9 (io), 142 PB8 (io), 143 ~{WDOG}/PB7 (io)
part B pins: 1 GND (power), 5 VCC (power), 10 GND (power), 11 GND (power), 16 GND (power), 17 GND (power), 20 VCC (power), 21 VCC (power), 36 GND (power), 37 GND (power), 38 VCC (power), 54 GND (power), 55 GND (power), 60 VCC (power), 65 GND (power), 66 GND (power), 79 GND (power), 84 VCC (power), 89 GND (power), 94 GND (power), 95 GND (power), 96 VCC (power), 97 VCC (power), 102 GND (power), 107 VCC (power), 114 GND (power), 123 GND (power), 128 VCC (power), 133 GND (power), 134 GND (power), 144 GND (power)

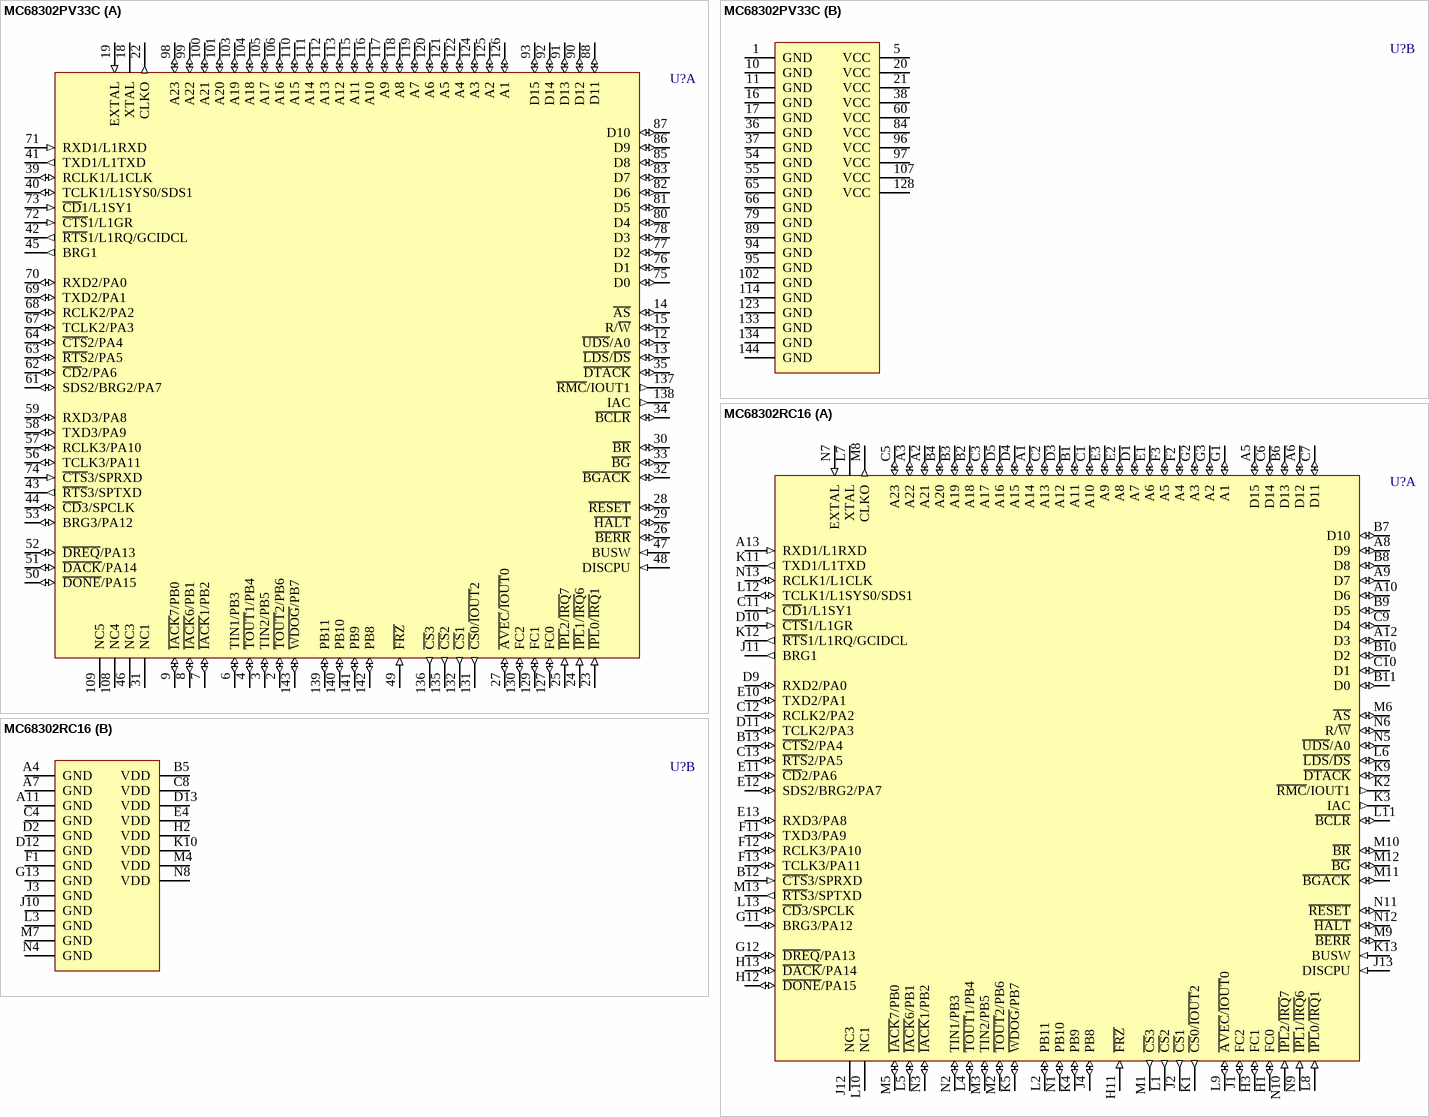
[diagram p82: symbols MC68302PV33C to MC68302RC16]

## MC68302PV33C
designator U?
Integrated Multiprotocol Processor; Published: 21-Mar-2003; LatestRevisionDate: 13-Apr-2006; LatestRevisionNote: IPC-7351 Footprint Added.; DatasheetVersion: 30-Dec-1995; PackageVersion: 1995; PackageReference: 918-02; Publisher: Altium Limited; PackageDescription: 144-Pin Thin Quad Flat Pack 0.5 mm Pitch; ComponentLink1Description: Manufacturer Link; ComponentLink1URL: http://www.freescale.com/
footprint 918-02_N (Thin QFP, 144-Leads, Body 20x20mm, Pitch 0.5mm, IPC Medium Density)
footprint 918-02_L (Thin QFP, 144-Leads, Body 20x20mm, Pitch 0.5mm, IPC High Density)
footprint 918-02_M (Thin QFP, 144-Leads, Body 20x20mm, Pitch 0.5mm, IPC Low Density)
3D model MC68302-918 (144-Pin Thin Quad Flat Pack 0.5 mm Pitch)
part A pins: 2 ~{TOUT}2/PB6 (io), 3 TIN2/PB5 (io), 4 ~{TOUT}1/PB4 (io), 6 TIN1/PB3 (io), 7 ~{IACK}1/PB2 (io), 8 ~{IACK}6/PB1 (io), 9 ~{IACK}7/PB0 (io), 12 ~{UDS}/A0 (io), 13 ~{LDS}/~{DS} (io), 14 ~{AS} (io), 15 R/~{W} (io), 18 XTAL, 19 EXTAL (in), 22 CLKO (out), 23 ~{IPL}0/~{IRQ}1 (in), 24 ~{IPL}1/~{IRQ}6 (in), 25 ~{IPL}2/~{IRQ}7 (in), 26 ~{BERR} (io), 27 ~{AVEC}/~{IOUT}0 (io), 28 ~{RESET} (io), 29 ~{HALT} (io), 30 ~{BR} (io), 31 NC1, 32 ~{BGACK} (io), 33 ~{BG} (io), 34 ~{BCLR} (io), 35 ~{DTACK} (io), 39 RCLK1/L1CLK (io), 40 TCLK1/L1SYS0/SDS1 (io), 41 TXD1/L1TXD (out), 42 ~{RTS}1/L1RQ/GCIDCL (out), 43 ~{RTS}3/SPTXD (out), 44 ~{CD}3/SPCLK (io), 45 BRG1 (out), 46 NC3, 47 BUSW (in), 48 DISCPU (in), 49 ~{FRZ} (in), 50 ~{DONE}/PA15 (io), 51 ~{DACK}/PA14 (io), 52 ~{DREQ}/PA13 (io), 53 BRG3/PA12 (io), 56 TCLK3/PA11 (io), 57 RCLK3/PA10 (io), 58 TXD3/PA9 (io), 59 RXD3/PA8 (io), 61 SDS2/BRG2/PA7 (io), 62 ~{CD}2/PA6 (io), 63 ~{RTS}2/PA5 (io), 64 ~{CTS}2/PA4 (io), 67 TCLK2/PA3 (io), 68 RCLK2/PA2 (io), 69 TXD2/PA1 (io), 70 RXD2/PA0 (io), 71 RXD1/L1RXD (in), 72 ~{CTS}1/L1GR (in), 73 ~{CD}1/L1SY1 (in), 74 ~{CTS}3/SPRXD (in), 75 D0 (io), 76 D1 (io), 77 D2 (io), 78 D3 (io), 80 D4 (io), 81 D5 (io), 82 D6 (io), 83 D7 (io), 85 D8 (io), 86 D9 (io), 87 D10 (io), 88 D11 (io), 90 D12 (io), 91 D13 (io), 92 D14 (io), 93 D15 (io), 98 A23 (io), 99 A22 (io), 100 A21 (io), 101 A20 (io), 103 A19 (io), 104 A18 (io), 105 A17 (io), 106 A16 (io), 108 NC4, 109 NC5, 110 A15 (io), 111 A14 (io), 112 A13 (io), 113 A12 (io), 115 A11 (io), 116 A10 (io), 117 A9 (io), 118 A8 (io), 119 A7 (io), 120 A6 (io), 121 A5 (io), 122 A4 (io), 124 A3 (io), 125 A2 (io), 126 A1 (io), 127 FC0 (io), 129 FC1 (io), 130 FC2 (io), 131 ~{CS}0/~{IOUT}2 (out), 132 ~{CS}1 (out), 135 ~{CS}2 (out), 136 ~{CS}3 (out), 137 ~{RMC}/IOUT1 (out), 138 IAC (out), 139 PB11 (io), 140 PB10 (io), 141 PB9 (io), 142 PB8 (io), 143 ~{WDOG}/PB7 (io)
part B pins: 1 GND (power), 5 VCC (power), 10 GND (power), 11 GND (power), 16 GND (power), 17 GND (power), 20 VCC (power), 21 VCC (power), 36 GND (power), 37 GND (power), 38 VCC (power), 54 GND (power), 55 GND (power), 60 VCC (power), 65 GND (power), 66 GND (power), 79 GND (power), 84 VCC (power), 89 GND (power), 94 GND (power), 95 GND (power), 96 VCC (power), 97 VCC (power), 102 GND (power), 107 VCC (power), 114 GND (power), 123 GND (power), 128 VCC (power), 133 GND (power), 134 GND (power), 144 GND (power)

## MC68302RC16
designator U?
Integrated Multiprotocol Processor; Published: 21-Mar-2003; LatestRevisionDate: 06-Jun-2005; LatestRevisionNote: Stylized 3D Model Added.; DatasheetVersion: 30-Dec-1995; PackageVersion: 1995; PackageReference: 789B-01; Publisher: Altium Limited; PackageDescription: 132-Pin Ceramic Pin Grid Array 2.54 mm Pitch; ComponentLink1Description: Manufacturer Link; ComponentLink1URL: http://www.freescale.com/
footprint 789B-01 (PGA, 132-Leads, Body 34.5x34.5mm, Pitch 2.54mm)
3D model MC68302-789B-01 (132-Pin Ceramic Pin Grid Array 2.54 mm Pitch)
part A pins: A1 A14 (io), A2 A21 (io), A3 A22 (io), A5 D15 (io), A6 D12 (io), A8 D9 (io), A9 D7 (io), A10 D6 (io), A12 D3 (io), A13 RXD1/L1RXD (in), B1 A11 (io), B2 A18 (io), B3 A19 (io), B4 A20 (io), B6 D13 (io), B7 D10 (io), B8 D8 (io), B9 D5 (io), B10 D2 (io), B11 D0 (io), B12 ~{CTS}3/SPRXD (in), B13 ~{CTS}2/PA4 (io), C1 A10 (io), C2 A13 (io), C3 A17 (io), C5 A23 (io), C6 D14 (io), C7 D11 (io), C9 D4 (io), C10 D1 (io), C11 ~{CD}1/L1SY1 (in), C12 RCLK2/PA2 (io), C13 ~{RTS}2/PA5 (io), D1 A7 (io), D3 A12 (io), D4 A15 (io), D5 A16 (io), D9 RXD2/PA0 (io), D10 ~{CTS}1/L1GR (in), D11 TCLK2/PA3 (io), E1 A6 (io), E2 A8 (io), E3 A9 (io), E10 TXD2/PA1 (io), E11 ~{CD}2/PA6 (io), E12 SDS2/BRG2/PA7 (io), E13 RXD3/PA8 (io), F2 A4 (io), F3 A5 (io), F11 TXD3/PA9 (io), F12 RCLK3/PA10 (io), F13 TCLK3/PA11 (io), G1 A1 (io), G2 A3 (io), G3 A2 (io), G11 BRG3/PA12 (io), G12 ~{DREQ}/PA13 (io), H1 FC0 (io), H3 FC1 (io), H11 ~{FRZ} (in), H12 ~{DONE}/PA15 (io), H13 ~{DACK}/PA14 (io), J1 FC2 (io), J2 ~{CS}1 (out), J4 PB8 (io), J11 BRG1 (out), J12 NC3, J13 DISCPU (in), K1 ~{CS}0/~{IOUT}2 (out), K2 ~{RMC}/IOUT1 (out), K3 IAC (out), K4 PB9 (io), K5 ~{WDOG}/PB7 (io), K9 ~{DTACK} (io), K11 TXD1/L1TXD (out), K12 ~{RTS}1/L1RQ/GCIDCL (out), K13 BUSW (in), L1 ~{CS}2 (out), L2 PB11 (io), L4 ~{TOUT}1/PB4 (io), L5 ~{IACK}6/PB1 (io), L6 ~{LDS}/~{DS} (io), L7 XTAL, L8 ~{IPL}0/~{IRQ}1 (in), L9 ~{AVEC}/~{IOUT}0 (io), L10 NC1, L11 ~{BCLR} (io), L12 TCLK1/L1SYS0/SDS1 (io), L13 ~{CD}3/SPCLK (io), M1 ~{CS}3 (out), M2 ~{TOUT}2/PB6 (io), M3 TIN2/PB5 (io), M5 ~{IACK}7/PB0 (io), M6 ~{AS} (io), M8 CLKO (out), M9 ~{BERR} (io), M10 ~{BR} (io), M11 ~{BGACK} (io), M12 ~{BG} (io), M13 ~{RTS}3/SPTXD (out), N1 PB10 (io), N2 TIN1/PB3 (io), N3 ~{IACK}1/PB2 (io), N5 ~{UDS}/A0 (io), N6 R/~{W} (io), N7 EXTAL (in), N9 ~{IPL}1/~{IRQ}6 (in), N10 ~{IPL}2/~{IRQ}7 (in), N11 ~{RESET} (io), N12 ~{HALT} (io), N13 RCLK1/L1CLK (io)
part B pins: A4 GND (power), A7 GND (power), A11 GND (power), B5 VDD (power), C4 GND (power), C8 VDD (power), D2 GND (power), D12 GND (power), D13 VDD (power), E4 VDD (power), F1 GND (power), G13 GND (power), H2 VDD (power), J3 GND (power), J10 GND (power), K10 VDD (power), L3 GND (power), M4 VDD (power), M7 GND (power), N4 GND (power), N8 VDD (power)

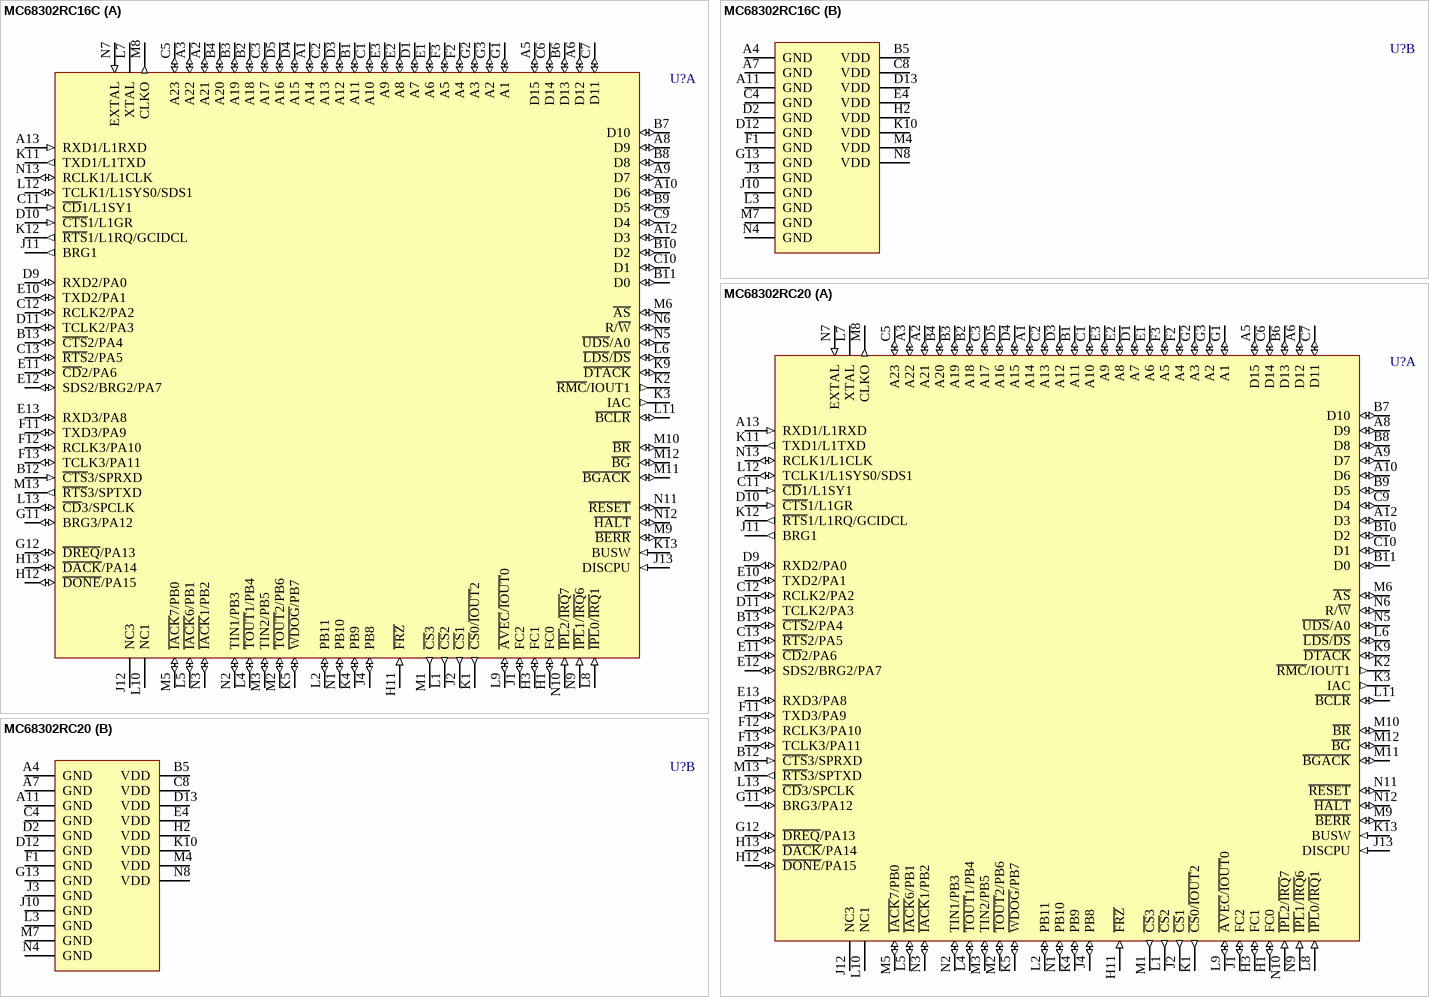
[diagram p83: symbols MC68302RC16C to MC68302RC20]

## MC68302RC16C
designator U?
Integrated Multiprotocol Processor; Published: 21-Mar-2003; LatestRevisionDate: 06-Jun-2005; LatestRevisionNote: Stylized 3D Model Added.; DatasheetVersion: 30-Dec-1995; PackageVersion: 1995; PackageReference: 789B-01; Publisher: Altium Limited; PackageDescription: 132-Pin Ceramic Pin Grid Array 2.54 mm Pitch; ComponentLink1Description: Manufacturer Link; ComponentLink1URL: http://www.freescale.com/
footprint 789B-01 (PGA, 132-Leads, Body 34.5x34.5mm, Pitch 2.54mm)
3D model MC68302-789B-01 (132-Pin Ceramic Pin Grid Array 2.54 mm Pitch)
part A pins: A1 A14 (io), A2 A21 (io), A3 A22 (io), A5 D15 (io), A6 D12 (io), A8 D9 (io), A9 D7 (io), A10 D6 (io), A12 D3 (io), A13 RXD1/L1RXD (in), B1 A11 (io), B2 A18 (io), B3 A19 (io), B4 A20 (io), B6 D13 (io), B7 D10 (io), B8 D8 (io), B9 D5 (io), B10 D2 (io), B11 D0 (io), B12 ~{CTS}3/SPRXD (in), B13 ~{CTS}2/PA4 (io), C1 A10 (io), C2 A13 (io), C3 A17 (io), C5 A23 (io), C6 D14 (io), C7 D11 (io), C9 D4 (io), C10 D1 (io), C11 ~{CD}1/L1SY1 (in), C12 RCLK2/PA2 (io), C13 ~{RTS}2/PA5 (io), D1 A7 (io), D3 A12 (io), D4 A15 (io), D5 A16 (io), D9 RXD2/PA0 (io), D10 ~{CTS}1/L1GR (in), D11 TCLK2/PA3 (io), E1 A6 (io), E2 A8 (io), E3 A9 (io), E10 TXD2/PA1 (io), E11 ~{CD}2/PA6 (io), E12 SDS2/BRG2/PA7 (io), E13 RXD3/PA8 (io), F2 A4 (io), F3 A5 (io), F11 TXD3/PA9 (io), F12 RCLK3/PA10 (io), F13 TCLK3/PA11 (io), G1 A1 (io), G2 A3 (io), G3 A2 (io), G11 BRG3/PA12 (io), G12 ~{DREQ}/PA13 (io), H1 FC0 (io), H3 FC1 (io), H11 ~{FRZ} (in), H12 ~{DONE}/PA15 (io), H13 ~{DACK}/PA14 (io), J1 FC2 (io), J2 ~{CS}1 (out), J4 PB8 (io), J11 BRG1 (out), J12 NC3, J13 DISCPU (in), K1 ~{CS}0/~{IOUT}2 (out), K2 ~{RMC}/IOUT1 (out), K3 IAC (out), K4 PB9 (io), K5 ~{WDOG}/PB7 (io), K9 ~{DTACK} (io), K11 TXD1/L1TXD (out), K12 ~{RTS}1/L1RQ/GCIDCL (out), K13 BUSW (in), L1 ~{CS}2 (out), L2 PB11 (io), L4 ~{TOUT}1/PB4 (io), L5 ~{IACK}6/PB1 (io), L6 ~{LDS}/~{DS} (io), L7 XTAL, L8 ~{IPL}0/~{IRQ}1 (in), L9 ~{AVEC}/~{IOUT}0 (io), L10 NC1, L11 ~{BCLR} (io), L12 TCLK1/L1SYS0/SDS1 (io), L13 ~{CD}3/SPCLK (io), M1 ~{CS}3 (out), M2 ~{TOUT}2/PB6 (io), M3 TIN2/PB5 (io), M5 ~{IACK}7/PB0 (io), M6 ~{AS} (io), M8 CLKO (out), M9 ~{BERR} (io), M10 ~{BR} (io), M11 ~{BGACK} (io), M12 ~{BG} (io), M13 ~{RTS}3/SPTXD (out), N1 PB10 (io), N2 TIN1/PB3 (io), N3 ~{IACK}1/PB2 (io), N5 ~{UDS}/A0 (io), N6 R/~{W} (io), N7 EXTAL (in), N9 ~{IPL}1/~{IRQ}6 (in), N10 ~{IPL}2/~{IRQ}7 (in), N11 ~{RESET} (io), N12 ~{HALT} (io), N13 RCLK1/L1CLK (io)
part B pins: A4 GND (power), A7 GND (power), A11 GND (power), B5 VDD (power), C4 GND (power), C8 VDD (power), D2 GND (power), D12 GND (power), D13 VDD (power), E4 VDD (power), F1 GND (power), G13 GND (power), H2 VDD (power), J3 GND (power), J10 GND (power), K10 VDD (power), L3 GND (power), M4 VDD (power), M7 GND (power), N4 GND (power), N8 VDD (power)

## MC68302RC20
designator U?
Integrated Multiprotocol Processor; Published: 21-Mar-2003; LatestRevisionDate: 06-Jun-2005; LatestRevisionNote: Stylized 3D Model Added.; DatasheetVersion: 30-Dec-1995; PackageVersion: 1995; PackageReference: 789B-01; Publisher: Altium Limited; PackageDescription: 132-Pin Ceramic Pin Grid Array 2.54 mm Pitch; ComponentLink1Description: Manufacturer Link; ComponentLink1URL: http://www.freescale.com/; ComponentLink2Description: Datasheet; ComponentLink2URL: http://www.freescale.com/files/32bit/doc/ref_manual/MC68302UM.pdf
footprint 789B-01 (PGA, 132-Leads, Body 34.5x34.5mm, Pitch 2.54mm)
3D model MC68302-789B-01 (132-Pin Ceramic Pin Grid Array 2.54 mm Pitch)
part A pins: A1 A14 (io), A2 A21 (io), A3 A22 (io), A5 D15 (io), A6 D12 (io), A8 D9 (io), A9 D7 (io), A10 D6 (io), A12 D3 (io), A13 RXD1/L1RXD (in), B1 A11 (io), B2 A18 (io), B3 A19 (io), B4 A20 (io), B6 D13 (io), B7 D10 (io), B8 D8 (io), B9 D5 (io), B10 D2 (io), B11 D0 (io), B12 ~{CTS}3/SPRXD (in), B13 ~{CTS}2/PA4 (io), C1 A10 (io), C2 A13 (io), C3 A17 (io), C5 A23 (io), C6 D14 (io), C7 D11 (io), C9 D4 (io), C10 D1 (io), C11 ~{CD}1/L1SY1 (in), C12 RCLK2/PA2 (io), C13 ~{RTS}2/PA5 (io), D1 A7 (io), D3 A12 (io), D4 A15 (io), D5 A16 (io), D9 RXD2/PA0 (io), D10 ~{CTS}1/L1GR (in), D11 TCLK2/PA3 (io), E1 A6 (io), E2 A8 (io), E3 A9 (io), E10 TXD2/PA1 (io), E11 ~{CD}2/PA6 (io), E12 SDS2/BRG2/PA7 (io), E13 RXD3/PA8 (io), F2 A4 (io), F3 A5 (io), F11 TXD3/PA9 (io), F12 RCLK3/PA10 (io), F13 TCLK3/PA11 (io), G1 A1 (io), G2 A3 (io), G3 A2 (io), G11 BRG3/PA12 (io), G12 ~{DREQ}/PA13 (io), H1 FC0 (io), H3 FC1 (io), H11 ~{FRZ} (in), H12 ~{DONE}/PA15 (io), H13 ~{DACK}/PA14 (io), J1 FC2 (io), J2 ~{CS}1 (out), J4 PB8 (io), J11 BRG1 (out), J12 NC3, J13 DISCPU (in), K1 ~{CS}0/~{IOUT}2 (out), K2 ~{RMC}/IOUT1 (out), K3 IAC (out), K4 PB9 (io), K5 ~{WDOG}/PB7 (io), K9 ~{DTACK} (io), K11 TXD1/L1TXD (out), K12 ~{RTS}1/L1RQ/GCIDCL (out), K13 BUSW (in), L1 ~{CS}2 (out), L2 PB11 (io), L4 ~{TOUT}1/PB4 (io), L5 ~{IACK}6/PB1 (io), L6 ~{LDS}/~{DS} (io), L7 XTAL, L8 ~{IPL}0/~{IRQ}1 (in), L9 ~{AVEC}/~{IOUT}0 (io), L10 NC1, L11 ~{BCLR} (io), L12 TCLK1/L1SYS0/SDS1 (io), L13 ~{CD}3/SPCLK (io), M1 ~{CS}3 (out), M2 ~{TOUT}2/PB6 (io), M3 TIN2/PB5 (io), M5 ~{IACK}7/PB0 (io), M6 ~{AS} (io), M8 CLKO (out), M9 ~{BERR} (io), M10 ~{BR} (io), M11 ~{BGACK} (io), M12 ~{BG} (io), M13 ~{RTS}3/SPTXD (out), N1 PB10 (io), N2 TIN1/PB3 (io), N3 ~{IACK}1/PB2 (io), N5 ~{UDS}/A0 (io), N6 R/~{W} (io), N7 EXTAL (in), N9 ~{IPL}1/~{IRQ}6 (in), N10 ~{IPL}2/~{IRQ}7 (in), N11 ~{RESET} (io), N12 ~{HALT} (io), N13 RCLK1/L1CLK (io)
part B pins: A4 GND (power), A7 GND (power), A11 GND (power), B5 VDD (power), C4 GND (power), C8 VDD (power), D2 GND (power), D12 GND (power), D13 VDD (power), E4 VDD (power), F1 GND (power), G13 GND (power), H2 VDD (power), J3 GND (power), J10 GND (power), K10 VDD (power), L3 GND (power), M4 VDD (power), M7 GND (power), N4 GND (power), N8 VDD (power)

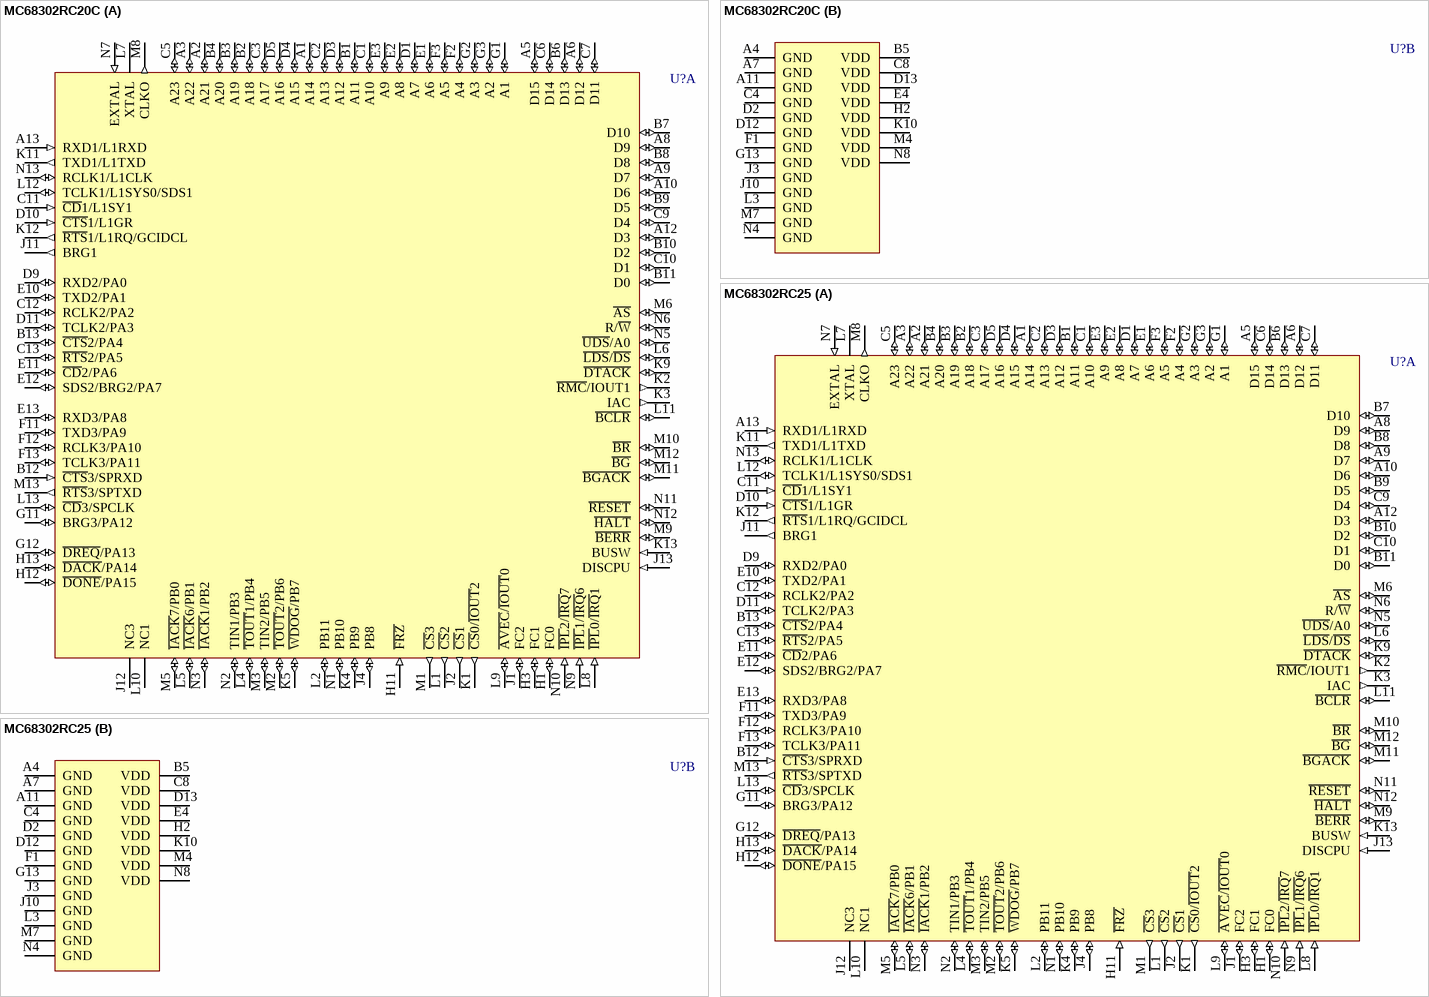
[diagram p84: symbols MC68302RC20C to MC68302RC25]

## MC68302RC20C
designator U?
Integrated Multiprotocol Processor; Published: 21-Mar-2003; LatestRevisionDate: 06-Jun-2005; LatestRevisionNote: Stylized 3D Model Added.; DatasheetVersion: 30-Dec-1995; PackageVersion: 1995; PackageReference: 789B-01; Publisher: Altium Limited; PackageDescription: 132-Pin Ceramic Pin Grid Array 2.54 mm Pitch; ComponentLink1Description: Manufacturer Link; ComponentLink1URL: http://www.freescale.com/
footprint 789B-01 (PGA, 132-Leads, Body 34.5x34.5mm, Pitch 2.54mm)
3D model MC68302-789B-01 (132-Pin Ceramic Pin Grid Array 2.54 mm Pitch)
part A pins: A1 A14 (io), A2 A21 (io), A3 A22 (io), A5 D15 (io), A6 D12 (io), A8 D9 (io), A9 D7 (io), A10 D6 (io), A12 D3 (io), A13 RXD1/L1RXD (in), B1 A11 (io), B2 A18 (io), B3 A19 (io), B4 A20 (io), B6 D13 (io), B7 D10 (io), B8 D8 (io), B9 D5 (io), B10 D2 (io), B11 D0 (io), B12 ~{CTS}3/SPRXD (in), B13 ~{CTS}2/PA4 (io), C1 A10 (io), C2 A13 (io), C3 A17 (io), C5 A23 (io), C6 D14 (io), C7 D11 (io), C9 D4 (io), C10 D1 (io), C11 ~{CD}1/L1SY1 (in), C12 RCLK2/PA2 (io), C13 ~{RTS}2/PA5 (io), D1 A7 (io), D3 A12 (io), D4 A15 (io), D5 A16 (io), D9 RXD2/PA0 (io), D10 ~{CTS}1/L1GR (in), D11 TCLK2/PA3 (io), E1 A6 (io), E2 A8 (io), E3 A9 (io), E10 TXD2/PA1 (io), E11 ~{CD}2/PA6 (io), E12 SDS2/BRG2/PA7 (io), E13 RXD3/PA8 (io), F2 A4 (io), F3 A5 (io), F11 TXD3/PA9 (io), F12 RCLK3/PA10 (io), F13 TCLK3/PA11 (io), G1 A1 (io), G2 A3 (io), G3 A2 (io), G11 BRG3/PA12 (io), G12 ~{DREQ}/PA13 (io), H1 FC0 (io), H3 FC1 (io), H11 ~{FRZ} (in), H12 ~{DONE}/PA15 (io), H13 ~{DACK}/PA14 (io), J1 FC2 (io), J2 ~{CS}1 (out), J4 PB8 (io), J11 BRG1 (out), J12 NC3, J13 DISCPU (in), K1 ~{CS}0/~{IOUT}2 (out), K2 ~{RMC}/IOUT1 (out), K3 IAC (out), K4 PB9 (io), K5 ~{WDOG}/PB7 (io), K9 ~{DTACK} (io), K11 TXD1/L1TXD (out), K12 ~{RTS}1/L1RQ/GCIDCL (out), K13 BUSW (in), L1 ~{CS}2 (out), L2 PB11 (io), L4 ~{TOUT}1/PB4 (io), L5 ~{IACK}6/PB1 (io), L6 ~{LDS}/~{DS} (io), L7 XTAL, L8 ~{IPL}0/~{IRQ}1 (in), L9 ~{AVEC}/~{IOUT}0 (io), L10 NC1, L11 ~{BCLR} (io), L12 TCLK1/L1SYS0/SDS1 (io), L13 ~{CD}3/SPCLK (io), M1 ~{CS}3 (out), M2 ~{TOUT}2/PB6 (io), M3 TIN2/PB5 (io), M5 ~{IACK}7/PB0 (io), M6 ~{AS} (io), M8 CLKO (out), M9 ~{BERR} (io), M10 ~{BR} (io), M11 ~{BGACK} (io), M12 ~{BG} (io), M13 ~{RTS}3/SPTXD (out), N1 PB10 (io), N2 TIN1/PB3 (io), N3 ~{IACK}1/PB2 (io), N5 ~{UDS}/A0 (io), N6 R/~{W} (io), N7 EXTAL (in), N9 ~{IPL}1/~{IRQ}6 (in), N10 ~{IPL}2/~{IRQ}7 (in), N11 ~{RESET} (io), N12 ~{HALT} (io), N13 RCLK1/L1CLK (io)
part B pins: A4 GND (power), A7 GND (power), A11 GND (power), B5 VDD (power), C4 GND (power), C8 VDD (power), D2 GND (power), D12 GND (power), D13 VDD (power), E4 VDD (power), F1 GND (power), G13 GND (power), H2 VDD (power), J3 GND (power), J10 GND (power), K10 VDD (power), L3 GND (power), M4 VDD (power), M7 GND (power), N4 GND (power), N8 VDD (power)

## MC68302RC25
designator U?
Integrated Multiprotocol Processor; Published: 21-Mar-2003; LatestRevisionDate: 06-Jun-2005; LatestRevisionNote: Stylized 3D Model Added.; DatasheetVersion: 30-Dec-1995; PackageVersion: 1995; PackageReference: 789B-01; Publisher: Altium Limited; PackageDescription: 132-Pin Ceramic Pin Grid Array 2.54 mm Pitch; ComponentLink1Description: Manufacturer Link; ComponentLink1URL: http://www.freescale.com/; ComponentLink2Description: Datasheet; ComponentLink2URL: http://www.freescale.com/files/32bit/doc/ref_manual/MC68302UM.pdf
footprint 789B-01 (PGA, 132-Leads, Body 34.5x34.5mm, Pitch 2.54mm)
3D model MC68302-789B-01 (132-Pin Ceramic Pin Grid Array 2.54 mm Pitch)
part A pins: A1 A14 (io), A2 A21 (io), A3 A22 (io), A5 D15 (io), A6 D12 (io), A8 D9 (io), A9 D7 (io), A10 D6 (io), A12 D3 (io), A13 RXD1/L1RXD (in), B1 A11 (io), B2 A18 (io), B3 A19 (io), B4 A20 (io), B6 D13 (io), B7 D10 (io), B8 D8 (io), B9 D5 (io), B10 D2 (io), B11 D0 (io), B12 ~{CTS}3/SPRXD (in), B13 ~{CTS}2/PA4 (io), C1 A10 (io), C2 A13 (io), C3 A17 (io), C5 A23 (io), C6 D14 (io), C7 D11 (io), C9 D4 (io), C10 D1 (io), C11 ~{CD}1/L1SY1 (in), C12 RCLK2/PA2 (io), C13 ~{RTS}2/PA5 (io), D1 A7 (io), D3 A12 (io), D4 A15 (io), D5 A16 (io), D9 RXD2/PA0 (io), D10 ~{CTS}1/L1GR (in), D11 TCLK2/PA3 (io), E1 A6 (io), E2 A8 (io), E3 A9 (io), E10 TXD2/PA1 (io), E11 ~{CD}2/PA6 (io), E12 SDS2/BRG2/PA7 (io), E13 RXD3/PA8 (io), F2 A4 (io), F3 A5 (io), F11 TXD3/PA9 (io), F12 RCLK3/PA10 (io), F13 TCLK3/PA11 (io), G1 A1 (io), G2 A3 (io), G3 A2 (io), G11 BRG3/PA12 (io), G12 ~{DREQ}/PA13 (io), H1 FC0 (io), H3 FC1 (io), H11 ~{FRZ} (in), H12 ~{DONE}/PA15 (io), H13 ~{DACK}/PA14 (io), J1 FC2 (io), J2 ~{CS}1 (out), J4 PB8 (io), J11 BRG1 (out), J12 NC3, J13 DISCPU (in), K1 ~{CS}0/~{IOUT}2 (out), K2 ~{RMC}/IOUT1 (out), K3 IAC (out), K4 PB9 (io), K5 ~{WDOG}/PB7 (io), K9 ~{DTACK} (io), K11 TXD1/L1TXD (out), K12 ~{RTS}1/L1RQ/GCIDCL (out), K13 BUSW (in), L1 ~{CS}2 (out), L2 PB11 (io), L4 ~{TOUT}1/PB4 (io), L5 ~{IACK}6/PB1 (io), L6 ~{LDS}/~{DS} (io), L7 XTAL, L8 ~{IPL}0/~{IRQ}1 (in), L9 ~{AVEC}/~{IOUT}0 (io), L10 NC1, L11 ~{BCLR} (io), L12 TCLK1/L1SYS0/SDS1 (io), L13 ~{CD}3/SPCLK (io), M1 ~{CS}3 (out), M2 ~{TOUT}2/PB6 (io), M3 TIN2/PB5 (io), M5 ~{IACK}7/PB0 (io), M6 ~{AS} (io), M8 CLKO (out), M9 ~{BERR} (io), M10 ~{BR} (io), M11 ~{BGACK} (io), M12 ~{BG} (io), M13 ~{RTS}3/SPTXD (out), N1 PB10 (io), N2 TIN1/PB3 (io), N3 ~{IACK}1/PB2 (io), N5 ~{UDS}/A0 (io), N6 R/~{W} (io), N7 EXTAL (in), N9 ~{IPL}1/~{IRQ}6 (in), N10 ~{IPL}2/~{IRQ}7 (in), N11 ~{RESET} (io), N12 ~{HALT} (io), N13 RCLK1/L1CLK (io)
part B pins: A4 GND (power), A7 GND (power), A11 GND (power), B5 VDD (power), C4 GND (power), C8 VDD (power), D2 GND (power), D12 GND (power), D13 VDD (power), E4 VDD (power), F1 GND (power), G13 GND (power), H2 VDD (power), J3 GND (power), J10 GND (power), K10 VDD (power), L3 GND (power), M4 VDD (power), M7 GND (power), N4 GND (power), N8 VDD (power)

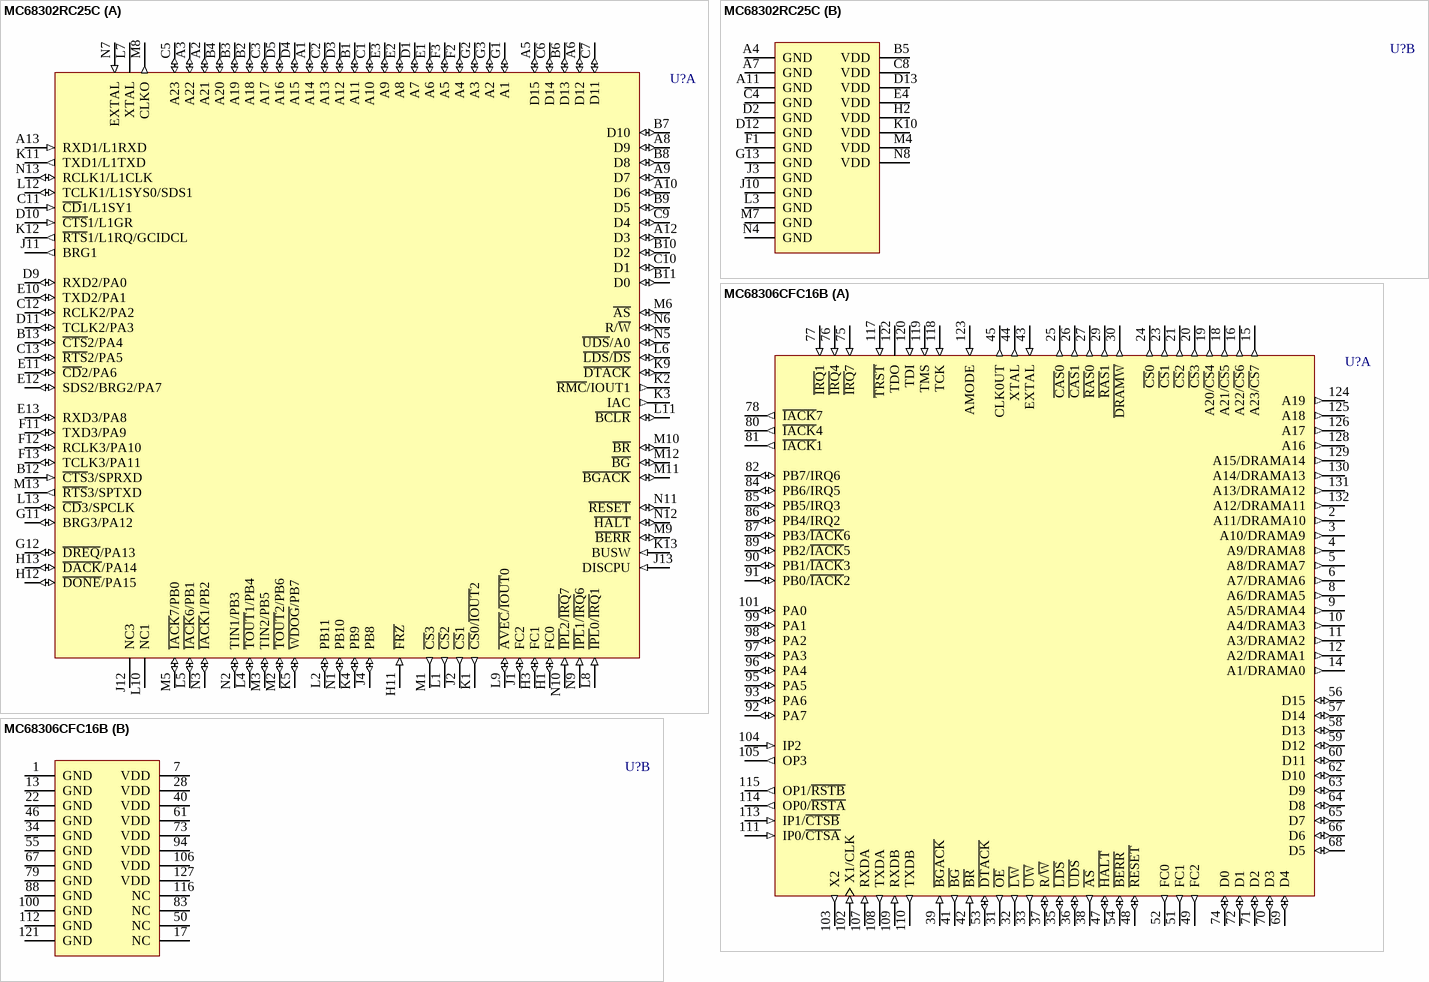
[diagram p85: symbols MC68302RC25C to MC68306CFC16B]

## MC68302RC25C
designator U?
Integrated Multiprotocol Processor; Published: 21-Mar-2003; LatestRevisionDate: 06-Jun-2005; LatestRevisionNote: Stylized 3D Model Added.; DatasheetVersion: 30-Dec-1995; PackageVersion: 1995; PackageReference: 789B-01; Publisher: Altium Limited; PackageDescription: 132-Pin Ceramic Pin Grid Array 2.54 mm Pitch; ComponentLink1Description: Manufacturer Link; ComponentLink1URL: http://www.freescale.com/
footprint 789B-01 (PGA, 132-Leads, Body 34.5x34.5mm, Pitch 2.54mm)
3D model MC68302-789B-01 (132-Pin Ceramic Pin Grid Array 2.54 mm Pitch)
part A pins: A1 A14 (io), A2 A21 (io), A3 A22 (io), A5 D15 (io), A6 D12 (io), A8 D9 (io), A9 D7 (io), A10 D6 (io), A12 D3 (io), A13 RXD1/L1RXD (in), B1 A11 (io), B2 A18 (io), B3 A19 (io), B4 A20 (io), B6 D13 (io), B7 D10 (io), B8 D8 (io), B9 D5 (io), B10 D2 (io), B11 D0 (io), B12 ~{CTS}3/SPRXD (in), B13 ~{CTS}2/PA4 (io), C1 A10 (io), C2 A13 (io), C3 A17 (io), C5 A23 (io), C6 D14 (io), C7 D11 (io), C9 D4 (io), C10 D1 (io), C11 ~{CD}1/L1SY1 (in), C12 RCLK2/PA2 (io), C13 ~{RTS}2/PA5 (io), D1 A7 (io), D3 A12 (io), D4 A15 (io), D5 A16 (io), D9 RXD2/PA0 (io), D10 ~{CTS}1/L1GR (in), D11 TCLK2/PA3 (io), E1 A6 (io), E2 A8 (io), E3 A9 (io), E10 TXD2/PA1 (io), E11 ~{CD}2/PA6 (io), E12 SDS2/BRG2/PA7 (io), E13 RXD3/PA8 (io), F2 A4 (io), F3 A5 (io), F11 TXD3/PA9 (io), F12 RCLK3/PA10 (io), F13 TCLK3/PA11 (io), G1 A1 (io), G2 A3 (io), G3 A2 (io), G11 BRG3/PA12 (io), G12 ~{DREQ}/PA13 (io), H1 FC0 (io), H3 FC1 (io), H11 ~{FRZ} (in), H12 ~{DONE}/PA15 (io), H13 ~{DACK}/PA14 (io), J1 FC2 (io), J2 ~{CS}1 (out), J4 PB8 (io), J11 BRG1 (out), J12 NC3, J13 DISCPU (in), K1 ~{CS}0/~{IOUT}2 (out), K2 ~{RMC}/IOUT1 (out), K3 IAC (out), K4 PB9 (io), K5 ~{WDOG}/PB7 (io), K9 ~{DTACK} (io), K11 TXD1/L1TXD (out), K12 ~{RTS}1/L1RQ/GCIDCL (out), K13 BUSW (in), L1 ~{CS}2 (out), L2 PB11 (io), L4 ~{TOUT}1/PB4 (io), L5 ~{IACK}6/PB1 (io), L6 ~{LDS}/~{DS} (io), L7 XTAL, L8 ~{IPL}0/~{IRQ}1 (in), L9 ~{AVEC}/~{IOUT}0 (io), L10 NC1, L11 ~{BCLR} (io), L12 TCLK1/L1SYS0/SDS1 (io), L13 ~{CD}3/SPCLK (io), M1 ~{CS}3 (out), M2 ~{TOUT}2/PB6 (io), M3 TIN2/PB5 (io), M5 ~{IACK}7/PB0 (io), M6 ~{AS} (io), M8 CLKO (out), M9 ~{BERR} (io), M10 ~{BR} (io), M11 ~{BGACK} (io), M12 ~{BG} (io), M13 ~{RTS}3/SPTXD (out), N1 PB10 (io), N2 TIN1/PB3 (io), N3 ~{IACK}1/PB2 (io), N5 ~{UDS}/A0 (io), N6 R/~{W} (io), N7 EXTAL (in), N9 ~{IPL}1/~{IRQ}6 (in), N10 ~{IPL}2/~{IRQ}7 (in), N11 ~{RESET} (io), N12 ~{HALT} (io), N13 RCLK1/L1CLK (io)
part B pins: A4 GND (power), A7 GND (power), A11 GND (power), B5 VDD (power), C4 GND (power), C8 VDD (power), D2 GND (power), D12 GND (power), D13 VDD (power), E4 VDD (power), F1 GND (power), G13 GND (power), H2 VDD (power), J3 GND (power), J10 GND (power), K10 VDD (power), L3 GND (power), M4 VDD (power), M7 GND (power), N4 GND (power), N8 VDD (power)

## MC68306CFC16B
designator U?
Integrated EC000 Processor; Published: 21-Mar-2003; DatasheetVersion: 31-Jan-1993; PackageVersion: 1997; PackageReference: 831A-01; Publisher: Altium Limited; PackageDescription: PQFP; 132 Leads; Body 24 x 24 mm; Pitch 0.635 mm; ComponentLink1Description: Manufacturer Link; ComponentLink1URL: http://www.freescale.com/
footprint 831A-01 (PQFP; 132 Leads; Body 24 x 24 mm; Pitch 0.635 mm)
part A pins: 2 A11/DRAMA10 (out), 3 A10/DRAMA9 (out), 4 A9/DRAMA8 (out), 5 A8/DRAMA7 (out), 6 A7/DRAMA6 (out), 8 A6/DRAMA5 (out), 9 A5/DRAMA4 (out), 10 A4/DRAMA3 (out), 11 A3/DRAMA2 (out), 12 A2/DRAMA1 (out), 14 A1/DRAMA0 (out), 15 A23/~{CS}7 (out), 16 A22/~{CS}6 (out), 18 A21/~{CS}5 (out), 19 A20/~{CS}4 (out), 20 ~{CS}3 (out), 21 ~{CS}2 (out), 23 ~{CS}1 (out), 24 ~{CS}0 (out), 25 ~{CAS}0 (out), 26 ~{CAS}1 (out), 27 ~{RAS}0 (out), 29 ~{RAS}1 (out), 30 ~{DRAMW} (out), 31 ~{OE} (out), 32 ~{LW} (out), 33 ~{UW} (out), 35 ~{LDS} (io), 36 ~{UDS} (io), 37 R/~{W} (io), 38 ~{AS} (out), 39 ~{BGACK} (in), 41 ~{BG} (out), 42 ~{BR} (in), 43 EXTAL (in), 44 XTAL (out), 45 CLK0UT (out), 47 ~{HALT} (io), 48 ~{RESET} (io), 49 FC2 (out), 51 FC1 (out), 52 FC0 (out), 53 ~{DTACK} (io), 54 ~{BERR} (io), 56 D15 (io), 57 D14 (io), 58 D13 (io), 59 D12 (io), 60 D11 (io), 62 D10 (io), 63 D9 (io), 64 D8 (io), 65 D7 (io), 66 D6 (io), 68 D5 (io), 69 D4 (io), 70 D3 (io), 71 D2 (io), 72 D1 (io), 74 D0 (io), 75 ~{IRQ}7 (in), 76 ~{IRQ}4 (in), 77 ~{IRQ}1 (in), 78 ~{IACK}7 (out), 80 ~{IACK}4 (out), 81 ~{IACK}1 (out), 82 PB7/IRQ6 (io), 84 PB6/IRQ5 (io), 85 PB5/IRQ3 (io), 86 PB4/IRQ2 (io), 87 PB3/~{IACK}6 (io), 89 PB2/~{IACK}5 (io), 90 PB1/~{IACK}3 (io), 91 PB0/~{IACK}2 (io), 92 PA7 (io), 93 PA6 (io), 95 PA5 (io), 96 PA4 (io), 97 PA3 (io), 98 PA2 (io), 99 PA1 (io), 101 PA0 (io), 102 X1/CLK (in), 103 X2 (out), 104 IP2 (in), 105 OP3 (out), 107 RXDA (in), 108 TXDA (out), 109 RXDB (in), 110 TXDB (out), 111 IP0/~{CTSA} (in), 113 IP1/~{CTSB} (in), 114 OP0/~{RSTA} (out), 115 OP1/~{RSTB} (out), 117 ~{TRST} (in), 118 TCK (in), 119 TMS (in), 120 TDI (in), 122 TDO (hiz), 123 AMODE (in), 124 A19 (out), 125 A18 (out), 126 A17 (out), 128 A16 (out), 129 A15/DRAMA14 (out), 130 A14/DRAMA13 (out), 131 A13/DRAMA12 (out), 132 A12/DRAMA11 (out)
part B pins: 1 GND (power), 7 VDD (power), 13 GND (power), 17 NC, 22 GND (power), 28 VDD (power), 34 GND (power), 40 VDD (power), 46 GND (power), 50 NC, 55 GND (power), 61 VDD (power), 67 GND (power), 73 VDD (power), 79 GND (power), 83 NC, 88 GND (power), 94 VDD (power), 100 GND (power), 106 VDD (power), 112 GND (power), 116 NC, 121 GND (power), 127 VDD (power)

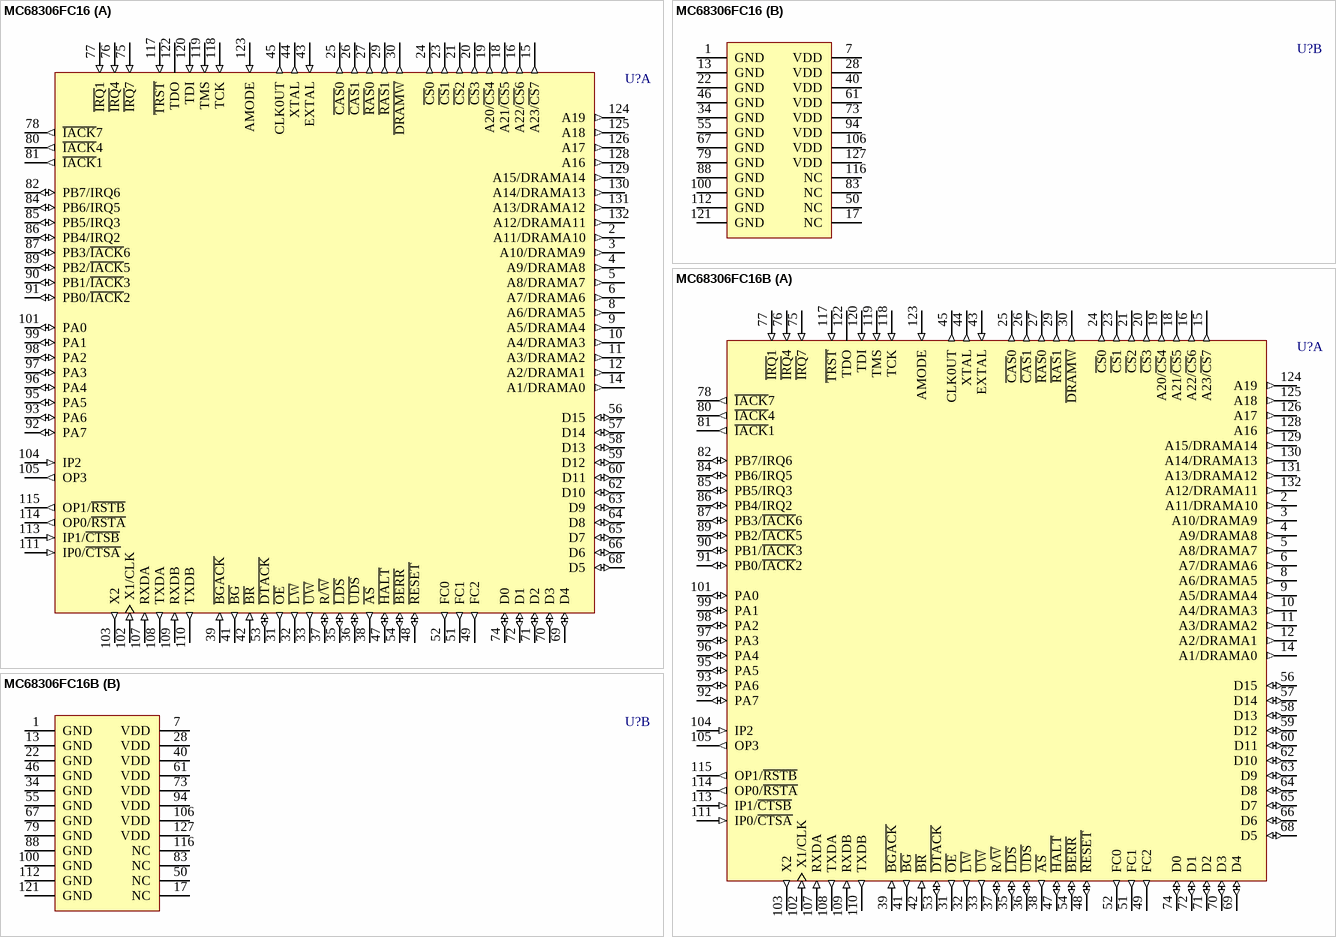
[diagram p86: symbols MC68306FC16 to MC68306FC16B]